# Altium schematic symbol library Interface_USB.SchLib: 132 symbols (part 1 of 2)
Pins are listed as number, name and electrical type; pins without a type are passive.

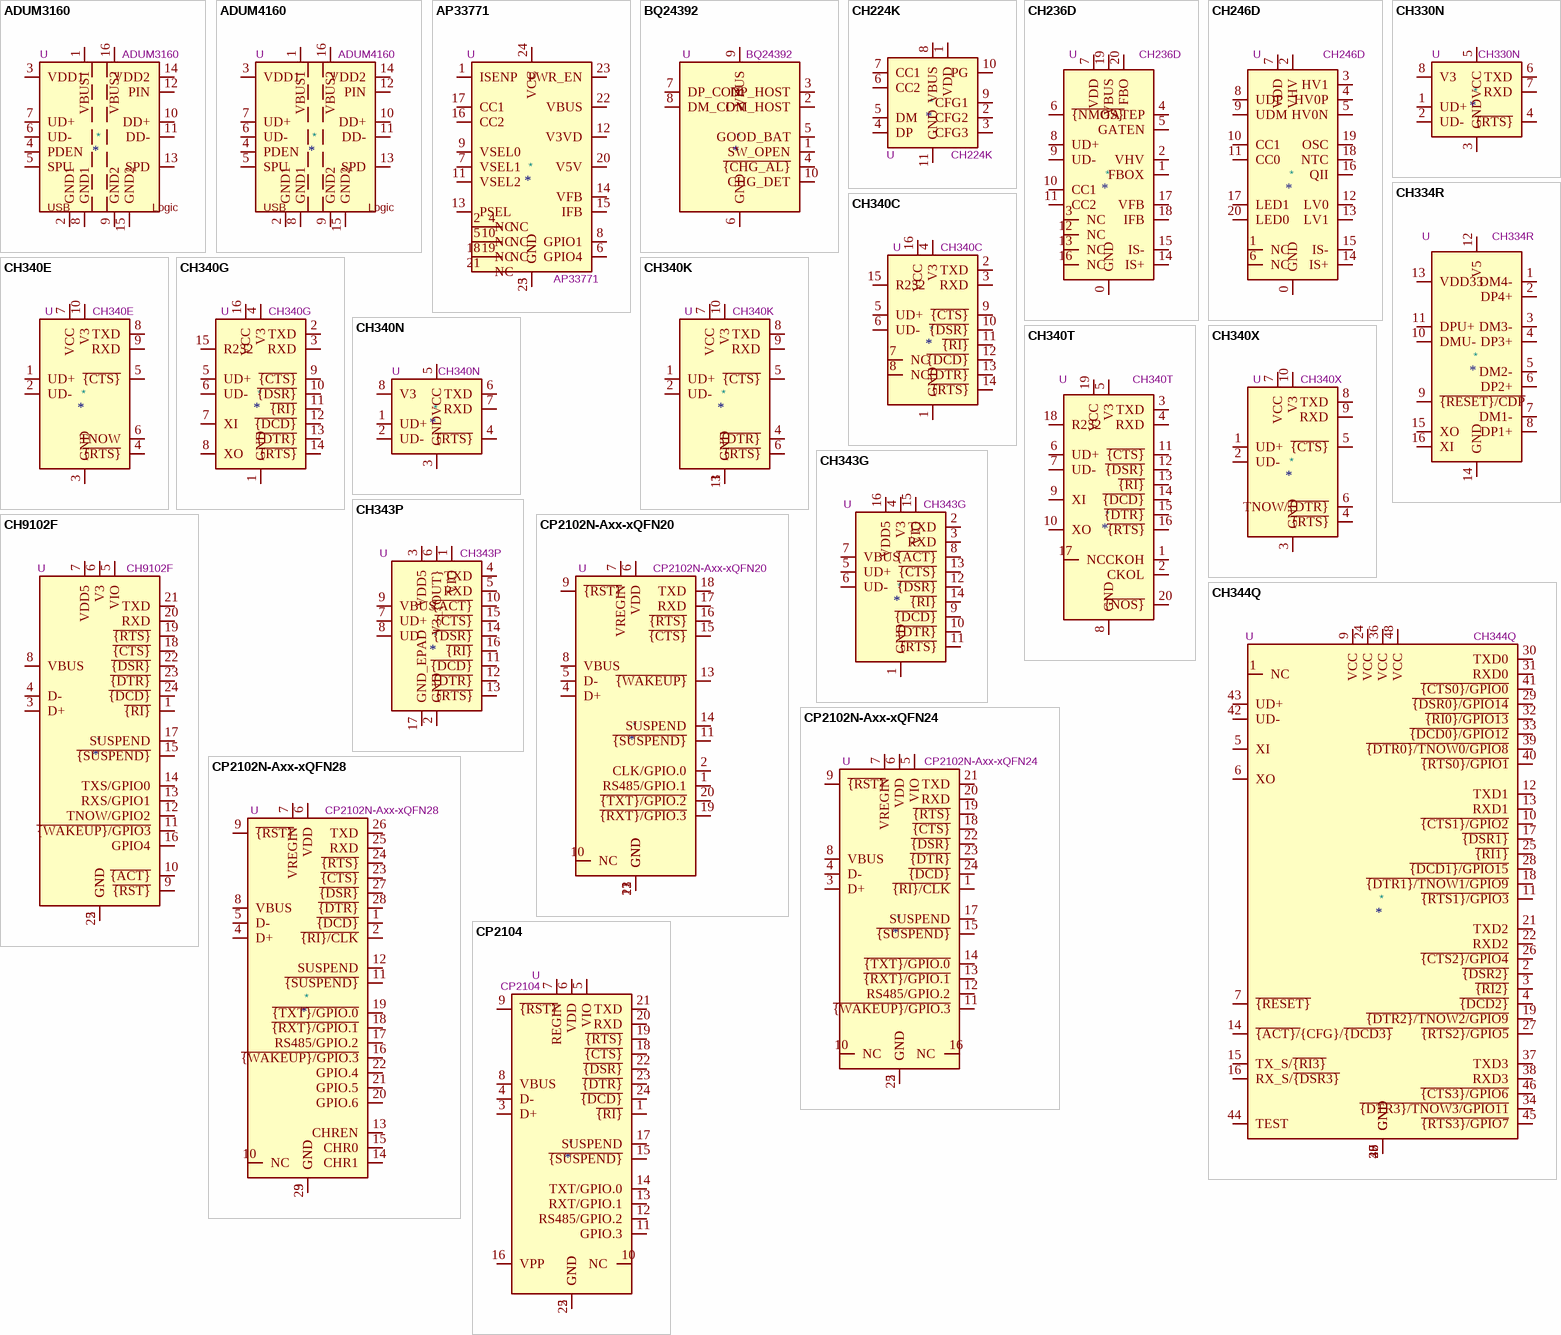
[diagram p0: symbols ADUM3160 to CP2104]

## ADUM3160
designator *  value ADUM3160  Reference: U
Full/Low Speed, iCoupler USB Digital Isolator, 2.5kV protection; ki_keywords: usb isolation; ki_fp_filters: SOIC*7.5x10.3mm*P1.27mm*; Footprint: Package_SO:SOIC-16W_7.5x10.3mm_P1.27mm; Datasheet: https://www.analog.com/media/en/technical-documentation/data-sheets/ADuM3160.pdf; Description_: Full/Low Speed, iCoupler USB Digital Isolator, 2.5kV protection
pins: 1 VBUS1, 2 GND1, 3 VDD1, 4 PDEN, 5 SPU, 6 UD-, 7 UD+, 8 GND1, 9 GND2, 10 DD+, 11 DD-, 12 PIN, 13 SPD, 14 VDD2, 15 GND2, 16 VBUS2
text: USB; Logic

## ADUM4160
designator *  value ADUM4160  Reference: U
Full/Low Speed, iCoupler USB Digital Isolator, 5kV protection, SOIC-16; ki_keywords: usb isolation; ki_fp_filters: SOIC*7.5x10.3mm*P1.27mm*; Footprint: Package_SO:SOIC-16W_7.5x10.3mm_P1.27mm; Datasheet: https://www.analog.com/media/en/technical-documentation/data-sheets/ADuM4160.pdf; Description_: Full/Low Speed, iCoupler USB Digital Isolator, 5kV protection, SOIC-16
pins: 1 VBUS1, 2 GND1, 3 VDD1, 4 PDEN, 5 SPU, 6 UD-, 7 UD+, 8 GND1, 9 GND2, 10 DD+, 11 DD-, 12 PIN, 13 SPD, 14 VDD2, 15 GND2, 16 VBUS2
text: USB; Logic

## AP33771
designator *  value AP33771  Reference: U
USB Type-C PD Sink Controller, QFN-24; ki_keywords: USB Type C PD Sink; ki_fp_filters: QFN*1EP*4x4mm*P0.5mm*; Footprint: Package_DFN_QFN:QFN-24-1EP_4x4mm_P0.5mm_EP2.7x2.7mm; Datasheet: https://www.diodes.com/assets/Datasheets/AP33771.pdf; Description_: USB Type-C PD Sink Controller, QFN-24
pins: 1 ISENP, 2 NC, 3 GND, 4 NC, 5 NC, 6 GPIO4, 7 VSEL1, 8 GPIO1, 9 VSEL0, 10 NC, 11 VSEL2, 12 V3VD, 13 PSEL, 14 VFB, 15 IFB, 16 CC2, 17 CC1, 18 NC, 19 NC, 20 V5V, 21 NC, 22 VBUS, 23 PWR_EN, 24 VCC, 25 GND

## BQ24392
designator *  value BQ24392  Reference: U
Dual SPST USB 2.0 High Speed Switch with USB Battery Charging Specification Revision 1.2 Detection, UQFN-10; ki_keywords: USB BC detector charger; ki_fp_filters: Texas*R*PUQFN*; Footprint: Package_DFN_QFN:Texas_R-PUQFN-N10; Datasheet: http://www.ti.com/lit/ds/symlink/bq24392.pdf; Description_: Dual SPST USB 2.0 High Speed Switch with USB Battery Charging Specification Revision 1.2 Detection, UQFN-10
pins: 1 SW_OPEN, 2 DM_HOST, 3 DP_HOST, 4 ~{{CHG_AL}}, 5 GOOD_BAT, 6 GND, 7 DP_CON, 8 DM_CON, 9 VBUS, 10 CHG_DET

## CH224K
designator *  value CH224K  Reference: U
100W USB Type-C PD3.0/2.0, BC1.2 Sink Controller, SSOP-10; ki_keywords: USB-C WCH powered-device; ki_fp_filters: SSOP*3.9x4.9mm*P1mm*EP2.1x3.3mm*; Footprint: Package_SO:SSOP-10-1EP_3.9x4.9mm_P1mm_EP2.1x3.3mm; Datasheet: https://www.wch.cn/downloads/file/301.html; Description_: 100W USB Type-C PD3.0/2.0, BC1.2 Sink Controller, SSOP-10
pins: 1 VDD, 2 CFG2, 3 CFG3, 4 DP, 5 DM, 6 CC2, 7 CC1, 8 VBUS, 9 CFG1, 10 PG, 11 GND

## CH236D
designator *  value CH236D  Reference: U
USB fast charging interface PD2.0/3.0, PPS, BC1.2 , QFN-20; ki_keywords: USB PD; ki_fp_filters: QFN*3x3mm*P0.4mm*; Footprint: Package_DFN_QFN:QFN-20-1EP_3x3mm_P0.4mm_EP1.65x1.65mm; Datasheet: https://wch-ic.com/downloads/file/313.html; Description_: USB fast charging interface PD2.0/3.0, PPS, BC1.2 , QFN-20
pins: 0 GND, 1 FBOX, 2 VHV, 3 NC, 4 GATEP, 5 GATEN, 6 ~{{NMOS}}, 7 VDD, 8 UD+, 9 UD-, 10 CC1, 11 CC2, 12 NC, 13 NC, 14 IS+, 15 IS-, 16 NC, 17 VFB, 18 IFB, 19 VBUS, 20 FBO

## CH246D
designator *  value CH246D  Reference: U
USB QII wireless charging interface PD2.0, BC1.2, QII 5W, 7.5W, 10W, 15W, QFN-20; ki_keywords: USB PD QII; ki_fp_filters: QFN*3x3mm*P0.4mm*; Footprint: Package_DFN_QFN:QFN-20-1EP_3x3mm_P0.4mm_EP1.65x1.65mm; Datasheet: https://wch-ic.com/downloads/file/307.html; Description_: USB QII wireless charging interface PD2.0, BC1.2, QII 5W, 7.5W, 10W, 15W, QFN-20
pins: 0 GND, 1 NC, 2 VHV, 3 HV1, 4 HV0P, 5 HV0N, 6 NC, 7 VDD, 8 UDP, 9 UDM, 10 CC1, 11 CC0, 12 LV0, 13 LV1, 14 IS+, 15 IS-, 16 QII, 17 LED1, 18 NTC, 19 OSC, 20 LED0

## CH330N
designator *  value CH330N  Reference: U
USB serial converter, UART, SOIC-8; ki_keywords: usb uart wch serial; ki_fp_filters: SOIC*3.9x4.9mm*P1.27mm*; Footprint: Package_SO:SOIC-8_3.9x4.9mm_P1.27mm; Datasheet: http://www.wch.cn/downloads/file/240.html; Description_: USB serial converter, UART, SOIC-8
pins: 1 UD+, 2 UD-, 3 GND, 4 ~{{RTS}}, 5 VCC, 6 TXD, 7 RXD, 8 V3

## CH334R
designator *  value CH334R  Reference: U
USB HUB controller, UART, QSOP-16; ki_keywords: USB HUB Controller Interface; ki_fp_filters: QSOP*3.9x4.9mm*P0.635mm*; Footprint: Package_SO:QSOP-16_3.9x4.9mm_P0.635mm; Datasheet: https://www.wch-ic.com/downloads/file/327.html; Description_: USB HUB controller, UART, QSOP-16
pins: 1 DM4-, 2 DP4+, 3 DM3-, 4 DP3+, 5 DM2-, 6 DP2+, 7 DM1-, 8 DP1+, 9 ~{{RESET}/CDP}, 10 DMU-, 11 DPU+, 12 V5, 13 VDD33, 14 GND, 15 XO, 16 XI

## CH340C
designator *  value CH340C  Reference: U
USB serial converter, crystal-less, UART, SOIC-16; ki_keywords: USB UART Serial Converter Interface; ki_fp_filters: SOIC*3.9x9.9mm*P1.27mm*; Footprint: Package_SO:SOIC-16_3.9x9.9mm_P1.27mm; Datasheet: https://datasheet.lcsc.com/szlcsc/Jiangsu-Qin-Heng-CH340C_C84681.pdf; Description_: USB serial converter, crystal-less, UART, SOIC-16
pins: 1 GND, 2 TXD, 3 RXD, 4 V3, 5 UD+, 6 UD-, 7 NC, 8 NC, 9 ~{{CTS}}, 10 ~{{DSR}}, 11 ~{{RI}}, 12 ~{{DCD}}, 13 ~{{DTR}}, 14 ~{{RTS}}, 15 R232, 16 VCC

## CH340E
designator *  value CH340E  Reference: U
USB serial converter, UART, MSOP-10; ki_keywords: USB UART Serial Converter Interface; ki_fp_filters: MSOP*3x3mm*P0.5mm*; Footprint: Package_SO:MSOP-10_3x3mm_P0.5mm; Datasheet: https://www.mpja.com/download/35227cpdata.pdf; Description_: USB serial converter, UART, MSOP-10
pins: 1 UD+, 2 UD-, 3 GND, 4 ~{{RTS}}, 5 ~{{CTS}}, 6 TNOW, 7 VCC, 8 TXD, 9 RXD, 10 V3

## CH340G
designator *  value CH340G  Reference: U
USB serial converter, UART, SOIC-16; ki_keywords: USB UART Serial Converter Interface; ki_fp_filters: SOIC*3.9x9.9mm*P1.27mm*; Footprint: Package_SO:SOIC-16_3.9x9.9mm_P1.27mm; Datasheet: http://www.datasheet5.com/pdf-local-2195953; Description_: USB serial converter, UART, SOIC-16
pins: 1 GND, 2 TXD, 3 RXD, 4 V3, 5 UD+, 6 UD-, 7 XI, 8 XO, 9 ~{{CTS}}, 10 ~{{DSR}}, 11 ~{{RI}}, 12 ~{{DCD}}, 13 ~{{DTR}}, 14 ~{{RTS}}, 15 R232, 16 VCC

## CH340K
designator *  value CH340K  Reference: U
USB serial converter, UART, SSOP-10; ki_keywords: USB UART Serial Converter Interface; ki_fp_filters: SSOP*1EP*3.9x4.9mm*P1mm*; Footprint: Package_SO:SSOP-10-1EP_3.9x4.9mm_P1mm_EP2.1x3.3mm; Datasheet: https://cdn.sparkfun.com/assets/5/0/a/8/5/CH340DS1.PDF; Description_: USB serial converter, UART, SSOP-10
pins: 1 UD+, 2 UD-, 3 GND, 4 ~{{DTR}}, 5 ~{{CTS}}, 6 ~{{RTS}}, 7 VCC, 8 TXD, 9 RXD, 10 V3, 11 GND

## CH340N
designator *  value CH340N  Reference: U
USB serial converter, 2Mbps, UART, JEITA SOIC-8 (SOP-8); ki_keywords: USB UART Serial Converter Interface; ki_fp_filters: JEITA?SOIC*3.9x4.9mm*P1.27mm*; Footprint: Package_SO:JEITA_SOIC-8_3.9x4.9mm_P1.27mm; Datasheet: https://aitendo3.sakura.ne.jp/aitendo_data/product_img/ic/inteface/CH340N/ch340n.pdf; Description_: USB serial converter, 2Mbps, UART, JEITA SOIC-8 (SOP-8)
pins: 1 UD+, 2 UD-, 3 GND, 4 ~{{RTS}}, 5 VCC, 6 TXD, 7 RXD, 8 V3

## CH340T
designator *  value CH340T  Reference: U
USB serial converter, UART, SSOP-20; ki_keywords: USB UART Serial Converter Interface; ki_fp_filters: SSOP*5.3x7.2mm*P0.65mm*; Footprint: Package_SO:SSOP-20_5.3x7.2mm_P0.65mm; Datasheet: https://cdn.sparkfun.com/datasheets/Dev/Arduino/Other/CH340DS1.PDF; Description_: USB serial converter, UART, SSOP-20
pins: 1 CKOH, 2 CKOL, 3 TXD, 4 RXD, 5 V3, 6 UD+, 7 UD-, 8 GND, 9 XI, 10 XO, 11 ~{{CTS}}, 12 ~{{DSR}}, 13 ~{{RI}}, 14 ~{{DCD}}, 15 ~{{DTR}}, 16 ~{{RTS}}, 17 NC, 18 R232, 19 VCC, 20 ~{{NOS}}

## CH340X
designator *  value CH340X  Reference: U
USB serial converter, 5V-tolerant IO, UART, MSOP-10; ki_keywords: USB UART Serial Converter Interface; ki_fp_filters: MSOP*3x3mm*P0.5mm*; Footprint: Package_SO:MSOP-10_3x3mm_P0.5mm; Datasheet: https://cdn.sparkfun.com/assets/5/0/a/8/5/CH340DS1.PDF; Description_: USB serial converter, 5V-tolerant IO, UART, MSOP-10
pins: 1 UD+, 2 UD-, 3 GND, 4 ~{{RTS}}, 5 ~{{CTS}}, 6 TNOW/~{{DTR}}, 7 VCC, 8 TXD, 9 RXD, 10 V3

## CH343G
designator *  value CH343G  Reference: U
High-Speed USB serial converter, up to 6Mbps, 3.3V or 5V supply, UART, SOIC-16; ki_keywords: UART Interface crystalless; ki_fp_filters: SOIC*3.9x9.9mm*P1.27mm*; Footprint: Package_SO:SOIC-16_3.9x9.9mm_P1.27mm; Datasheet: https://www.wch-ic.com/downloads/CH343DS1_PDF.html; Description_: High-Speed USB serial converter, up to 6Mbps, 3.3V or 5V supply, UART, SOIC-16
pins: 1 GND, 2 TXD, 3 RXD, 4 V3, 5 UD+, 6 UD-, 7 VBUS, 8 ~{{ACT}}, 9 ~{{DCD}}, 10 ~{{DTR}}, 11 ~{{RTS}}, 12 ~{{DSR}}, 13 ~{{CTS}}, 14 ~{{RI}}, 15 VIO, 16 VDD5

## CH343P
designator *  value CH343P  Reference: U
High-Speed USB serial converter, up to 6Mbps, 3.3V or 5V supply, UART, QFN-16; ki_keywords: UART Interface crystalless Winchip WCH; ki_fp_filters: *QFN*3x3mm*P0.5mm*EP1.8x1.8mm*; Footprint: Package_DFN_QFN:WCH_QFN-16-1EP_3x3mm_P0.5mm_EP1.8x1.8mm; Datasheet: https://www.wch-ic.com/downloads/CH343DS1_PDF.html; Description_: High-Speed USB serial converter, up to 6Mbps, 3.3V or 5V supply, UART, QFN-16
pins: 1 VIO, 2 GND, 3 VDD5, 4 TXD, 5 RXD, 6 V3_{OUT}, 7 UD+, 8 UD-, 9 VBUS, 10 ~{{ACT}}, 11 ~{{DCD}}, 12 ~{{DTR}}, 13 ~{{RTS}}, 14 ~{{DSR}}, 15 ~{{CTS}}, 16 ~{{RI}}, 17 GND_EPAD

## CH344Q
designator *  value CH344Q  Reference: U
USB to Quad Serial Ports Chip, LQFP-48; ki_keywords: USB Quad UART Serial Converter Interface; ki_fp_filters: *QFP*7x7mm*P0.5mm*; Footprint: Package_QFP:LQFP-48_7x7mm_P0.5mm; Datasheet: https://www.wch-ic.com/downloads/file/299.html; Description_: USB to Quad Serial Ports Chip, LQFP-48
pins: 1 NC, 2 ~{{DSR2}}, 3 ~{{RI2}}, 4 ~{{DCD2}}, 5 XI, 6 XO, 7 ~{{RESET}}, 8 GND, 9 VCC, 10 ~{{CTS1}/GPIO2}, 11 ~{{RTS1}/GPIO3}, 12 TXD1, 13 RXD1, 14 ~{{ACT}/}{CFG}/~{{DCD3}}, 15 TX_S/~{{RI3}}, 16 RX_S/~{{DSR3}}, 17 ~{{DSR1}}, 18 ~{{DTR1}/TNOW1/GPIO9}, 19 ~{{DTR2}/TNOW2/GPIO9}, 20 GND, 21 TXD2, 22 RXD2, 23 GND, 24 VCC, 25 ~{{RI1}}, 26 ~{{CTS2}/GPIO4}, 27 ~{{RTS2}/GPIO5}, 28 ~{{DCD1}/GPIO15}, 29 ~{{DSR0}/GPIO14}, 30 TXD0, 31 RXD0, 32 ~{{RI0}/GPIO13}, 33 ~{{DCD0}/GPIO12}, 34 ~{{DTR3}/TNOW3/GPIO11}, 35 GND, 36 VCC, 37 TXD3, 38 RXD3, 39 ~{{DTR0}/TNOW0/GPIO8}, 40 ~{{RTS0}/GPIO1}, 41 ~{{CTS0}/GPIO0}, 42 UD-, 43 UD+, 44 TEST, 45 ~{{RTS3}/GPIO7}, 46 ~{{CTS3}/GPIO6}, 47 GND, 48 VCC

## CH9102F
designator *  value CH9102F  Reference: U
WCH-IC, Single-Chip USB-to-UART Bridge, USB 2.0 Full-Speed, 4Mbps UART, QFN-24; ki_keywords: uart usb bridge interface transceiver CH9102F; ki_fp_filters: QFN*4x4mm*P0.5mm*; Footprint: Package_DFN_QFN:QFN-24-1EP_4x4mm_P0.5mm_EP2.6x2.6mm; Datasheet: http://www.wch-ic.com/downloads/CH9102DS1_PDF.html; Description_: WCH-IC, Single-Chip USB-to-UART Bridge, USB 2.0 Full-Speed, 4Mbps UART, QFN-24
pins: 1 ~{{RI}}, 2 GND, 3 D+, 4 D-, 5 VIO, 6 V3, 7 VDD5, 8 VBUS, 9 ~{{RST}}, 10 ~{{ACT}}, 11 ~{{WAKEUP}/GPIO3}, 12 TNOW/GPIO2, 13 RXS/GPIO1, 14 TXS/GPIO0, 15 ~{{SUSPEND}}, 16 GPIO4, 17 SUSPEND, 18 ~{{CTS}}, 19 ~{{RTS}}, 20 RXD, 21 TXD, 22 ~{{DSR}}, 23 ~{{DTR}}, 24 ~{{DCD}}, 25 GND

## CP2102N-Axx-xQFN20
designator *  value CP2102N-Axx-xQFN20  Reference: U
USB to UART master bridge, QFN-20; ki_keywords: USB UART bridge; ki_fp_filters: SiliconLabs*QFN*3x3mm*P0.5mm*; Footprint: Package_DFN_QFN:SiliconLabs_QFN-20-1EP_3x3mm_P0.5mm; Datasheet: https://www.silabs.com/documents/public/data-sheets/cp2102n-datasheet.pdf; Description_: USB to UART master bridge, QFN-20
pins: 1 RS485/GPIO.1, 2 CLK/GPIO.0, 3 GND, 4 D+, 5 D-, 6 VDD, 7 VREGIN, 8 VBUS, 9 ~{{RST}}, 10 NC, 11 ~{{SUSPEND}}, 12 GND, 13 ~{{WAKEUP}}, 14 SUSPEND, 15 ~{{CTS}}, 16 ~{{RTS}}, 17 RXD, 18 TXD, 19 ~{{RXT}/GPIO.3}, 20 ~{{TXT}/GPIO.2}, 21 GND

## CP2102N-Axx-xQFN24
designator *  value CP2102N-Axx-xQFN24  Reference: U
USB to UART master bridge, QFN-24; ki_keywords: USB UART bridge; ki_fp_filters: QFN*4x4mm*P0.5mm*; Footprint: Package_DFN_QFN:QFN-24-1EP_4x4mm_P0.5mm_EP2.6x2.6mm; Datasheet: https://www.silabs.com/documents/public/data-sheets/cp2102n-datasheet.pdf; Description_: USB to UART master bridge, QFN-24
pins: 1 ~{{RI}/CLK}, 2 GND, 3 D+, 4 D-, 5 VIO, 6 VDD, 7 VREGIN, 8 VBUS, 9 ~{{RST}}, 10 NC, 11 ~{{WAKEUP}/GPIO.3}, 12 RS485/GPIO.2, 13 ~{{RXT}/GPIO.1}, 14 ~{{TXT}/GPIO.0}, 15 ~{{SUSPEND}}, 16 NC, 17 SUSPEND, 18 ~{{CTS}}, 19 ~{{RTS}}, 20 RXD, 21 TXD, 22 ~{{DSR}}, 23 ~{{DTR}}, 24 ~{{DCD}}, 25 GND

## CP2102N-Axx-xQFN28
designator *  value CP2102N-Axx-xQFN28  Reference: U
USB to UART master bridge, QFN-28; ki_keywords: USB UART bridge; ki_fp_filters: QFN*1EP*5x5mm*P0.5mm*; Footprint: Package_DFN_QFN:QFN-28-1EP_5x5mm_P0.5mm_EP3.35x3.35mm; Datasheet: https://www.silabs.com/documents/public/data-sheets/cp2102n-datasheet.pdf; Description_: USB to UART master bridge, QFN-28
pins: 1 ~{{DCD}}, 2 ~{{RI}/CLK}, 3 GND, 4 D+, 5 D-, 6 VDD, 7 VREGIN, 8 VBUS, 9 ~{{RST}}, 10 NC, 11 ~{{SUSPEND}}, 12 SUSPEND, 13 CHREN, 14 CHR1, 15 CHR0, 16 ~{{WAKEUP}/GPIO.3}, 17 RS485/GPIO.2, 18 ~{{RXT}/GPIO.1}, 19 ~{{TXT}/GPIO.0}, 20 GPIO.6, 21 GPIO.5, 22 GPIO.4, 23 ~{{CTS}}, 24 ~{{RTS}}, 25 RXD, 26 TXD, 27 ~{{DSR}}, 28 ~{{DTR}}, 29 GND

## CP2104
designator *  value CP2104  Reference: U
Single-Chip USB-to-UART Bridge, USB 2.0 Full-Speed, 2Mbps UART, QFN-24; ki_keywords: uart usb bridge interface transceiver; ki_fp_filters: QFN*4x4mm*P0.5mm*; Footprint: Package_DFN_QFN:QFN-24-1EP_4x4mm_P0.5mm_EP2.6x2.6mm; Datasheet: https://www.silabs.com/documents/public/data-sheets/cp2104.pdf; Description_: Single-Chip USB-to-UART Bridge, USB 2.0 Full-Speed, 2Mbps UART, QFN-24
pins: 1 ~{{RI}}, 2 GND, 3 D+, 4 D-, 5 VIO, 6 VDD, 7 REGIN, 8 VBUS, 9 ~{{RST}}, 10 NC, 11 GPIO.3, 12 RS485/GPIO.2, 13 RXT/GPIO.1, 14 TXT/GPIO.0, 15 ~{{SUSPEND}}, 16 VPP, 17 SUSPEND, 18 ~{{CTS}}, 19 ~{{RTS}}, 20 RXD, 21 TXD, 22 ~{{DSR}}, 23 ~{{DTR}}, 24 ~{{DCD}}, 25 GND

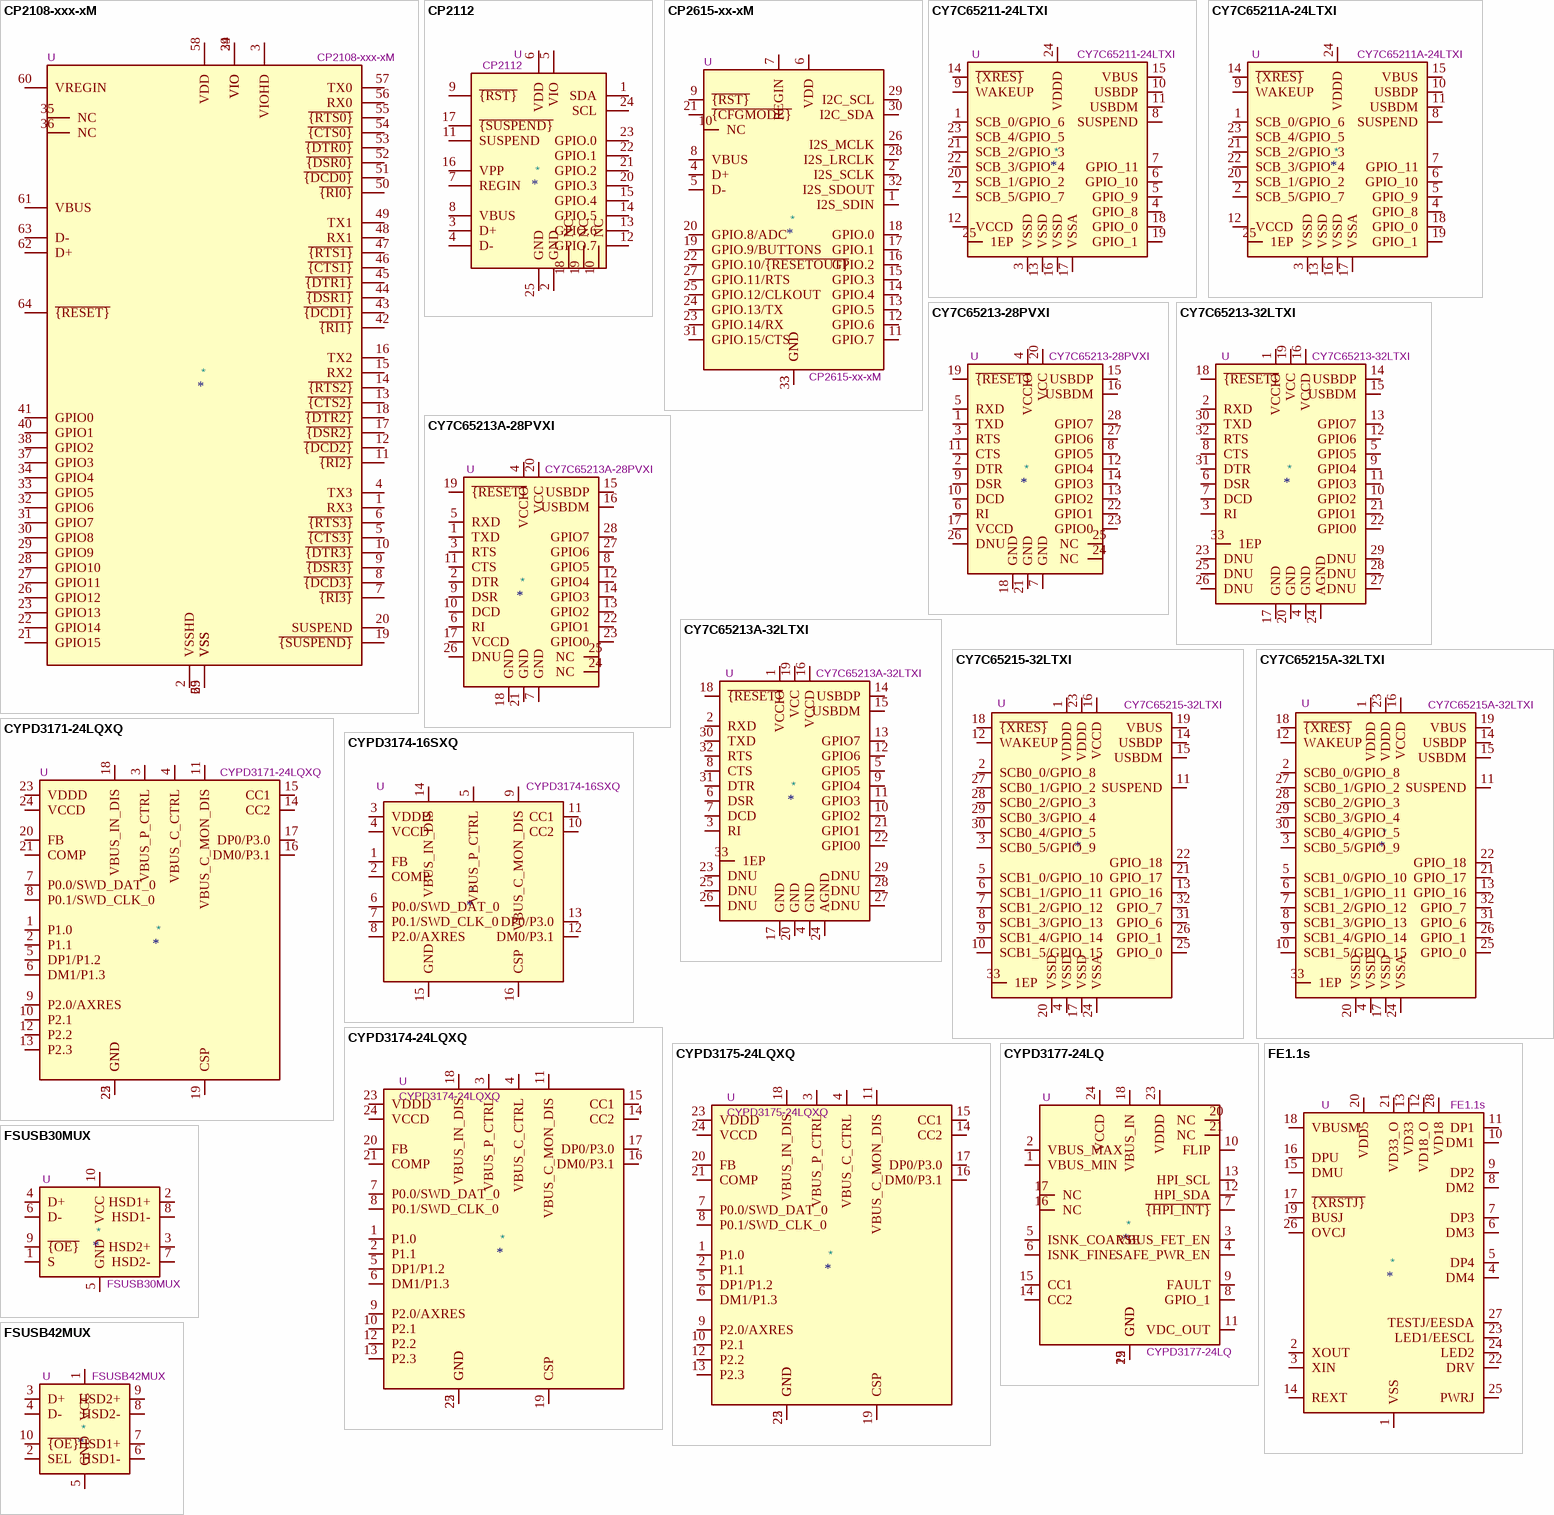
[diagram p1: symbols CP2108-xxx-xM to FSUSB42MUX]

## CP2108-xxx-xM
designator *  value CP2108-xxx-xM  Reference: U
Full Speed Quad Channel USB UART/FIFO, integrated clock and EEPROM, QFN-64; ki_keywords: USB Quad UART FIFO bridge; ki_fp_filters: QFN*1EP*9x9mm*P0.5mm*; Footprint: Package_DFN_QFN:QFN-64-1EP_9x9mm_P0.5mm_EP4.1x4.1mm; Datasheet: https://www.silabs.com/documents/public/data-sheets/cp2108-datasheet.pdf; Description_: Full Speed Quad Channel USB UART/FIFO, integrated clock and EEPROM, QFN-64
pins: 1 RX3, 2 VSSHD, 3 VIOHD, 4 TX3, 5 ~{{CTS3}}, 6 ~{{RTS3}}, 7 ~{{RI3}}, 8 ~{{DCD3}}, 9 ~{{DSR3}}, 10 ~{{DTR3}}, 11 ~{{RI2}}, 12 ~{{DCD2}}, 13 ~{{CTS2}}, 14 ~{{RTS2}}, 15 RX2, 16 TX2, 17 ~{{DSR2}}, 18 ~{{DTR2}}, 19 ~{{SUSPEND}}, 20 SUSPEND, 21 GPIO15, 22 GPIO14, 23 GPIO13, 24 VIO, 25 VSS, 26 GPIO12, 27 GPIO11, 28 GPIO10, 29 GPIO9, 30 GPIO8, 31 GPIO7, 32 GPIO6, 33 GPIO5, 34 GPIO4, 35 NC, 36 NC, 37 GPIO3, 38 GPIO2, 39 VIO, 40 GPIO1, 41 GPIO0, 42 ~{{RI1}}, 43 ~{{DCD1}}, 44 ~{{DSR1}}, 45 ~{{DTR1}}, 46 ~{{CTS1}}, 47 ~{{RTS1}}, 48 RX1, 49 TX1, 50 ~{{RI0}}, 51 ~{{DCD0}}, 52 ~{{DSR0}}, 53 ~{{DTR0}}, 54 ~{{CTS0}}, 55 ~{{RTS0}}, 56 RX0, 57 TX0, 58 VDD, 59 VSS, 60 VREGIN, 61 VBUS, 62 D+, 63 D-, 64 ~{{RESET}}, 65 VSS

## CP2112
designator *  value CP2112  Reference: U
HID USB to SMBUS master bridge; ki_keywords: USB SMBUS bridge; ki_fp_filters: QFN*4x4mm*P0.5mm*; Footprint: Package_DFN_QFN:QFN-24-1EP_4x4mm_P0.5mm_EP2.6x2.6mm; Datasheet: https://www.silabs.com/documents/public/data-sheets/cp2112-datasheet.pdf; Description_: HID USB to SMBUS master bridge
pins: 1 SDA, 2 GND, 3 D+, 4 D-, 5 VIO, 6 VDD, 7 REGIN, 8 VBUS, 9 ~{{RST}}, 10 NC, 11 SUSPEND, 12 GPIO.7, 13 GPIO.6, 14 GPIO.5, 15 GPIO.4, 16 VPP, 17 ~{{SUSPEND}}, 18 NC, 19 NC, 20 GPIO.3, 21 GPIO.2, 22 GPIO.1, 23 GPIO.0, 24 SCL, 25 GND

## CP2615-xx-xM
designator *  value CP2615-xx-xM  Reference: U
USB to I2S bridge, USB 1.0 Audio Class, QFN-32; ki_keywords: usb i2s i2c uart audio bridge hid gpio; ki_fp_filters: QFN*1EP*5x5mm*P0.5mm*; Footprint: Package_DFN_QFN:QFN-32-1EP_5x5mm_P0.5mm_EP3.3x3.3mm; Datasheet: https://www.silabs.com/documents/public/data-sheets/cp2615-datasheet.pdf; Description_: USB to I2S bridge, USB 1.0 Audio Class, QFN-32
pins: 1 I2S_SDIN, 2 I2S_SCLK, 3 GND, 4 D+, 5 D-, 6 VDD, 7 REGIN, 8 VBUS, 9 ~{{RST}}, 10 NC, 11 GPIO.7, 12 GPIO.6, 13 GPIO.5, 14 GPIO.4, 15 GPIO.3, 16 GPIO.2, 17 GPIO.1, 18 GPIO.0, 19 GPIO.9/BUTTONS, 20 GPIO.8/ADC, 21 ~{{CFGMODE}}, 22 GPIO.10/~{{RESETOUT}}, 23 GPIO.14/RX, 24 GPIO.13/TX, 25 GPIO.12/CLKOUT, 26 I2S_MCLK, 27 GPIO.11/RTS, 28 I2S_LRCLK, 29 I2C_SCL, 30 I2C_SDA, 31 GPIO.15/CTS, 32 I2S_SDOUT, 33 GND

## CY7C65211-24LTXI
designator *  value CY7C65211-24LTXI  Reference: U
USB-Serial single channel bridge with capsense and BCD, +1.71V to +5.5V VDD, UART/I2C/SPI/RS232/RS422, QFN-24; ki_fp_filters: QFN*1EP*4x4mm*P0.5mm*; Footprint: Package_DFN_QFN:QFN-24-1EP_4x4mm_P0.5mm_EP2.6x2.6mm; Datasheet: http://www.cypress.com/file/139886/download; Description_: USB-Serial single channel bridge with capsense and BCD, +1.71V to +5.5V VDD, UART/I2C/SPI/RS232/RS422, QFN-24; ki_keywords: USB-Serial single channel bridge
pins: 1 SCB_0/GPIO_6, 2 SCB_5/GPIO_7, 3 VSSD, 4 GPIO_8, 5 GPIO_9, 6 GPIO_10, 7 GPIO_11, 8 SUSPEND, 9 WAKEUP, 10 USBDP, 11 USBDM, 12 VCCD, 13 VSSD, 14 ~{{XRES}}, 15 VBUS, 16 VSSD, 17 VSSA, 18 GPIO_0, 19 GPIO_1, 20 SCB_1/GPIO_2, 21 SCB_2/GPIO_3, 22 SCB_3/GPIO_4, 23 SCB_4/GPIO_5, 24 VDDD, 25 1EP

## CY7C65211A-24LTXI
designator *  value CY7C65211A-24LTXI  Reference: U
USB-Serial single channel bridge with capsense and BCD, +1.71V to +5.5V VDD, UART/I2C/SPI/RS232/RS422/RS485, QFN-24; ki_fp_filters: QFN*1EP*4x4mm*P0.5mm*; Footprint: Package_DFN_QFN:QFN-24-1EP_4x4mm_P0.5mm_EP2.6x2.6mm; Datasheet: http://www.cypress.com/file/139886/download; Description_: USB-Serial single channel bridge with capsense and BCD, +1.71V to +5.5V VDD, UART/I2C/SPI/RS232/RS422/RS485, QFN-24; ki_keywords: USB-Serial single channel bridge
pins: 1 SCB_0/GPIO_6, 2 SCB_5/GPIO_7, 3 VSSD, 4 GPIO_8, 5 GPIO_9, 6 GPIO_10, 7 GPIO_11, 8 SUSPEND, 9 WAKEUP, 10 USBDP, 11 USBDM, 12 VCCD, 13 VSSD, 14 ~{{XRES}}, 15 VBUS, 16 VSSD, 17 VSSA, 18 GPIO_0, 19 GPIO_1, 20 SCB_1/GPIO_2, 21 SCB_2/GPIO_3, 22 SCB_3/GPIO_4, 23 SCB_4/GPIO_5, 24 VDDD, 25 1EP

## CY7C65213-28PVXI
designator *  value CY7C65213-28PVXI  Reference: U
USB-UART LP Bridge Controller, full speed 12Mbps, +1.71V to 5.5V VDD, UART/RS232/RS422, SSOP-28; ki_fp_filters: SSOP*5.3x10.2mm*P0.65mm*; Footprint: Package_SO:SSOP-28_5.3x10.2mm_P0.65mm; Datasheet: http://www.cypress.com/file/139881/download; Description_: USB-UART LP Bridge Controller, full speed 12Mbps, +1.71V to 5.5V VDD, UART/RS232/RS422, SSOP-28; ki_keywords: USB-UART LP Bridge Controller, full speed 12Mbps
pins: 1 TXD, 2 DTR, 3 RTS, 4 VCCIO, 5 RXD, 6 RI, 7 GND, 8 GPIO5, 9 DSR, 10 DCD, 11 CTS, 12 GPIO4, 13 GPIO2, 14 GPIO3, 15 USBDP, 16 USBDM, 17 VCCD, 18 GND, 19 ~{{RESET}}, 20 VCC, 21 GND, 22 GPIO1, 23 GPIO0, 24 NC, 25 NC, 26 DNU, 27 GPIO6, 28 GPIO7

## CY7C65213-32LTXI
designator *  value CY7C65213-32LTXI  Reference: U
USB-UART LP Bridge Controller, full speed 12Mbps, +1.71V to 5.5V VDD, UART/RS232/RS422, QFN-32; ki_fp_filters: QFN*1EP*5x5mm*P0.5mm*; Footprint: Package_DFN_QFN:QFN-32-1EP_5x5mm_P0.5mm_EP3.45x3.45mm; Datasheet: http://www.cypress.com/file/139881/download; Description_: USB-UART LP Bridge Controller, full speed 12Mbps, +1.71V to 5.5V VDD, UART/RS232/RS422, QFN-32; ki_keywords: USB-UART LP Bridge Controller, full speed 12Mbps
pins: 1 VCCIO, 2 RXD, 3 RI, 4 GND, 5 GPIO5, 6 DSR, 7 DCD, 8 CTS, 9 GPIO4, 10 GPIO2, 11 GPIO3, 12 GPIO6, 13 GPIO7, 14 USBDP, 15 USBDM, 16 VCCD, 17 GND, 18 ~{{RESET}}, 19 VCC, 20 GND, 21 GPIO1, 22 GPIO0, 23 DNU, 24 AGND, 25 DNU, 26 DNU, 27 DNU, 28 DNU, 29 DNU, 30 TXD, 31 DTR, 32 RTS, 33 1EP

## CY7C65213A-28PVXI
designator *  value CY7C65213A-28PVXI  Reference: U
USB-UART LP Bridge Controller, full speed 12Mbps, +1.71V to 5.5V VDD, UART/RS232/RS422/RS485, SSOP-28; ki_fp_filters: SSOP*5.3x10.2mm*P0.65mm*; Footprint: Package_SO:SSOP-28_5.3x10.2mm_P0.65mm; Datasheet: http://www.cypress.com/file/139881/download; Description_: USB-UART LP Bridge Controller, full speed 12Mbps, +1.71V to 5.5V VDD, UART/RS232/RS422/RS485, SSOP-28; ki_keywords: USB-UART LP Bridge Controller, full speed 12Mbps
pins: 1 TXD, 2 DTR, 3 RTS, 4 VCCIO, 5 RXD, 6 RI, 7 GND, 8 GPIO5, 9 DSR, 10 DCD, 11 CTS, 12 GPIO4, 13 GPIO2, 14 GPIO3, 15 USBDP, 16 USBDM, 17 VCCD, 18 GND, 19 ~{{RESET}}, 20 VCC, 21 GND, 22 GPIO1, 23 GPIO0, 24 NC, 25 NC, 26 DNU, 27 GPIO6, 28 GPIO7

## CY7C65213A-32LTXI
designator *  value CY7C65213A-32LTXI  Reference: U
USB-UART LP Bridge Controller, full speed 12Mbps, +1.71V to 5.5V VDD, UART/RS232/RS422/RS485, QFN-32; ki_fp_filters: QFN*1EP*5x5mm*P0.5mm*; Footprint: Package_DFN_QFN:QFN-32-1EP_5x5mm_P0.5mm_EP3.45x3.45mm; Datasheet: http://www.cypress.com/file/139881/download; Description_: USB-UART LP Bridge Controller, full speed 12Mbps, +1.71V to 5.5V VDD, UART/RS232/RS422/RS485, QFN-32; ki_keywords: USB-UART LP Bridge Controller, full speed 12Mbps
pins: 1 VCCIO, 2 RXD, 3 RI, 4 GND, 5 GPIO5, 6 DSR, 7 DCD, 8 CTS, 9 GPIO4, 10 GPIO2, 11 GPIO3, 12 GPIO6, 13 GPIO7, 14 USBDP, 15 USBDM, 16 VCCD, 17 GND, 18 ~{{RESET}}, 19 VCC, 20 GND, 21 GPIO1, 22 GPIO0, 23 DNU, 24 AGND, 25 DNU, 26 DNU, 27 DNU, 28 DNU, 29 DNU, 30 TXD, 31 DTR, 32 RTS, 33 1EP

## CY7C65215-32LTXI
designator *  value CY7C65215-32LTXI  Reference: U
USB-Serial Dual Channel Bridge with CapSense Full-Speed 12 Mbps, +1.71V to +5.5V VDD, UART/I2C/SPI/RS232/RS422/JTAG, QFN-32; ki_keywords: USB-Serial single channel bridge; ki_fp_filters: QFN*1EP*5x5mm*P0.5mm*; Footprint: Package_DFN_QFN:QFN-32-1EP_5x5mm_P0.5mm_EP3.45x3.45mm; Datasheet: http://www.cypress.com/file/129956/download; Description_: USB-Serial Dual Channel Bridge with CapSense Full-Speed 12 Mbps, +1.71V to +5.5V VDD, UART/I2C/SPI/RS232/RS422/JTAG, QFN-32
pins: 1 VDDD, 2 SCB0_0/GPIO_8, 3 SCB0_5/GPIO_9, 4 VSSD, 5 SCB1_0/GPIO_10, 6 SCB1_1/GPIO_11, 7 SCB1_2/GPIO_12, 8 SCB1_3/GPIO_13, 9 SCB1_4/GPIO_14, 10 SCB1_5/GPIO_15, 11 SUSPEND, 12 WAKEUP, 13 GPIO_16, 14 USBDP, 15 USBDM, 16 VCCD, 17 VSSD, 18 ~{{XRES}}, 19 VBUS, 20 VSSD, 21 GPIO_17, 22 GPIO_18, 23 VDDD, 24 VSSA, 25 GPIO_0, 26 GPIO_1, 27 SCB0_1/GPIO_2, 28 SCB0_2/GPIO_3, 29 SCB0_3/GPIO_4, 30 SCB0_4/GPIO_5, 31 GPIO_6, 32 GPIO_7, 33 1EP

## CY7C65215A-32LTXI
designator *  value CY7C65215A-32LTXI  Reference: U
USB-Serial Dual Channel Bridge with CapSense, +1.71V to +5.5V VDD, UART/I2C/SPI/RS232/RS422/RS485/JTAG, QFN-32; ki_keywords: USB-Serial single channel bridge; ki_fp_filters: QFN*1EP*5x5mm*P0.5mm*; Footprint: Package_DFN_QFN:QFN-32-1EP_5x5mm_P0.5mm_EP3.45x3.45mm; Datasheet: http://www.cypress.com/file/129956/download; Description_: USB-Serial Dual Channel Bridge with CapSense, +1.71V to +5.5V VDD, UART/I2C/SPI/RS232/RS422/RS485/JTAG, QFN-32
pins: 1 VDDD, 2 SCB0_0/GPIO_8, 3 SCB0_5/GPIO_9, 4 VSSD, 5 SCB1_0/GPIO_10, 6 SCB1_1/GPIO_11, 7 SCB1_2/GPIO_12, 8 SCB1_3/GPIO_13, 9 SCB1_4/GPIO_14, 10 SCB1_5/GPIO_15, 11 SUSPEND, 12 WAKEUP, 13 GPIO_16, 14 USBDP, 15 USBDM, 16 VCCD, 17 VSSD, 18 ~{{XRES}}, 19 VBUS, 20 VSSD, 21 GPIO_17, 22 GPIO_18, 23 VDDD, 24 VSSA, 25 GPIO_0, 26 GPIO_1, 27 SCB0_1/GPIO_2, 28 SCB0_2/GPIO_3, 29 SCB0_3/GPIO_4, 30 SCB0_4/GPIO_5, 31 GPIO_6, 32 GPIO_7, 33 1EP

## CYPD3171-24LQXQ
designator *  value CYPD3171-24LQXQ  Reference: U
USB Type-C port controller, Cortex®-M0 processor, UFP CC bootloader, QFN-24; ki_keywords: USBPD Quickcharge; ki_fp_filters: QFN*1EP*4x4mm*P0.5mm*EP2.75x2.75mm*; Footprint: Package_DFN_QFN:QFN-24-1EP_4x4mm_P0.5mm_EP2.75x2.75mm; Datasheet: https://www.infineon.com/dgdl/Infineon-EZ-PD(TM)_CCG3PA_Datasheet_USB_Type-C_Port_Controller-DataSheet-v09_00-EN.pdf?fileId=8ac78c8c7d0d8da4017d0ee438366ac0; Description_: USB Type-C port controller, Cortex®-M0 processor, UFP CC bootloader, QFN-24
pins: 1 P1.0, 2 P1.1, 3 VBUS_P_CTRL, 4 VBUS_C_CTRL, 5 DP1/P1.2, 6 DM1/P1.3, 7 P0.0/SWD_DAT_0, 8 P0.1/SWD_CLK_0, 9 P2.0/AXRES, 10 P2.1, 11 VBUS_C_MON_DIS, 12 P2.2, 13 P2.3, 14 CC2, 15 CC1, 16 DM0/P3.1, 17 DP0/P3.0, 18 VBUS_IN_DIS, 19 CSP, 20 FB, 21 COMP, 22 GND, 23 VDDD, 24 VCCD, 25 GND

## CYPD3174-16SXQ
designator *  value CYPD3174-16SXQ  Reference: U
USB Type-C port controller, Cortex®-M0 processor, DFP CC with opto coupler feedback bootloader, SOIC-16; ki_keywords: USBPD quickcharge; ki_fp_filters: SOIC*3.9x9.9mm*P1.27mm*; Footprint: Package_SO:SOIC-16_3.9x9.9mm_P1.27mm; Datasheet: https://www.infineon.com/dgdl/Infineon-EZ-PD(TM)_CCG3PA_Datasheet_USB_Type-C_Port_Controller-DataSheet-v09_00-EN.pdf?fileId=8ac78c8c7d0d8da4017d0ee438366ac0; Description_: USB Type-C port controller, Cortex®-M0 processor, DFP CC with opto coupler feedback bootloader, SOIC-16
pins: 1 FB, 2 COMP, 3 VDDD, 4 VCCD, 5 VBUS_P_CTRL, 6 P0.0/SWD_DAT_0, 7 P0.1/SWD_CLK_0, 8 P2.0/AXRES, 9 VBUS_C_MON_DIS, 10 CC2, 11 CC1, 12 DM0/P3.1, 13 DP0/P3.0, 14 VBUS_IN_DIS, 15 GND, 16 CSP

## CYPD3174-24LQXQ
designator *  value CYPD3174-24LQXQ  Reference: U
USB Type-C port controller, Cortex®-M0 processor, DFP CC with opto coupler feedback bootloader, QFN-24; ki_keywords: USBPD Quickcharge; ki_fp_filters: QFN*1EP*4x4mm*P0.5mm*EP2.75x2.75mm*; Footprint: Package_DFN_QFN:QFN-24-1EP_4x4mm_P0.5mm_EP2.75x2.75mm; Datasheet: https://www.infineon.com/dgdl/Infineon-EZ-PD(TM)_CCG3PA_Datasheet_USB_Type-C_Port_Controller-DataSheet-v09_00-EN.pdf?fileId=8ac78c8c7d0d8da4017d0ee438366ac0; Description_: USB Type-C port controller, Cortex®-M0 processor, DFP CC with opto coupler feedback bootloader, QFN-24
pins: 1 P1.0, 2 P1.1, 3 VBUS_P_CTRL, 4 VBUS_C_CTRL, 5 DP1/P1.2, 6 DM1/P1.3, 7 P0.0/SWD_DAT_0, 8 P0.1/SWD_CLK_0, 9 P2.0/AXRES, 10 P2.1, 11 VBUS_C_MON_DIS, 12 P2.2, 13 P2.3, 14 CC2, 15 CC1, 16 DM0/P3.1, 17 DP0/P3.0, 18 VBUS_IN_DIS, 19 CSP, 20 FB, 21 COMP, 22 GND, 23 VDDD, 24 VCCD, 25 GND

## CYPD3175-24LQXQ
designator *  value CYPD3175-24LQXQ  Reference: U
USB Type-C port controller, Cortex®-M0 processor, DFP CC with direct feedback bootloader, QFN-24; ki_keywords: USBPD Quickcharge; ki_fp_filters: QFN*1EP*4x4mm*P0.5mm*EP2.75x2.75mm*; Footprint: Package_DFN_QFN:QFN-24-1EP_4x4mm_P0.5mm_EP2.75x2.75mm; Datasheet: https://www.infineon.com/dgdl/Infineon-EZ-PD(TM)_CCG3PA_Datasheet_USB_Type-C_Port_Controller-DataSheet-v09_00-EN.pdf?fileId=8ac78c8c7d0d8da4017d0ee438366ac0; Description_: USB Type-C port controller, Cortex®-M0 processor, DFP CC with direct feedback bootloader, QFN-24
pins: 1 P1.0, 2 P1.1, 3 VBUS_P_CTRL, 4 VBUS_C_CTRL, 5 DP1/P1.2, 6 DM1/P1.3, 7 P0.0/SWD_DAT_0, 8 P0.1/SWD_CLK_0, 9 P2.0/AXRES, 10 P2.1, 11 VBUS_C_MON_DIS, 12 P2.2, 13 P2.3, 14 CC2, 15 CC1, 16 DM0/P3.1, 17 DP0/P3.0, 18 VBUS_IN_DIS, 19 CSP, 20 FB, 21 COMP, 22 GND, 23 VDDD, 24 VCCD, 25 GND

## CYPD3177-24LQ
designator *  value CYPD3177-24LQ  Reference: U
Stand-alone USB PD controller (with sink Auto-run mode), QFN-24; ki_keywords: usb pd type csink; ki_fp_filters: QFN*1EP?4x4mm*P0.5mm*; Footprint: Package_DFN_QFN:QFN-24-1EP_4x4mm_P0.5mm_EP2.75x2.75mm; Datasheet: https://www.infineon.com/dgdl/Infineon-EZ-PD_BCR_Datasheet_USB_Type-C_Port_Controller_for_Power_Sinks-DataSheet-v03_00-EN.pdf?fileId=8ac78c8c7d0d8da4017d0ee7ce9d70ad; Description_: Stand-alone USB PD controller (with sink Auto-run mode), QFN-24
pins: 1 VBUS_MIN, 2 VBUS_MAX, 3 VBUS_FET_EN, 4 SAFE_PWR_EN, 5 ISNK_COARSE, 6 ISNK_FINE, 7 ~{{HPI_INT}}, 8 GPIO_1, 9 FAULT, 10 FLIP, 11 VDC_OUT, 12 HPI_SDA, 13 HPI_SCL, 14 CC2, 15 CC1, 16 NC, 17 NC, 18 VBUS_IN, 19 GND, 20 NC, 21 NC, 22 GND, 23 VDDD, 24 VCCD, 25 GND

## FE1.1s
designator *  value FE1.1s  Reference: U
USB 2.0 High Speed 4-Port Hub Controller, SSOP-28; ki_keywords: 4-Port, EEPROM, High Speed, Hub, USB2.0; ki_fp_filters: SSOP*3.9x9.9mm*P0.635mm*; Footprint: Package_SO:SSOP-28_3.9x9.9mm_P0.635mm; Datasheet: https://cdn-shop.adafruit.com/product-files/2991/FE1.1s+Data+Sheet+(Rev.+1.0).pdf; Description_: USB 2.0 High Speed 4-Port Hub Controller, SSOP-28
pins: 1 VSS, 2 XOUT, 3 XIN, 4 DM4, 5 DP4, 6 DM3, 7 DP3, 8 DM2, 9 DP2, 10 DM1, 11 DP1, 12 VD18_O, 13 VD33, 14 REXT, 15 DMU, 16 DPU, 17 ~{{XRSTJ}}, 18 VBUSM, 19 BUSJ, 20 VDD5, 21 VD33_O, 22 DRV, 23 LED1/EESCL, 24 LED2, 25 PWRJ, 26 OVCJ, 27 TESTJ/EESDA, 28 VD18

## FSUSB30MUX
designator *  value FSUSB30MUX  Reference: U
Low-Power, Two-Port, High-Speed, USB2.0 (480Mbps) Switch, MSOP-10; ki_keywords: USB 2.0 High Speed Switch; ki_fp_filters: MSOP*3x3mm*P0.5mm*; Footprint: Package_SO:MSOP-10_3x3mm_P0.5mm; Datasheet: https://www.onsemi.com/pdf/datasheet/fsusb30-d.pdf; Description_: Low-Power, Two-Port, High-Speed, USB2.0 (480Mbps) Switch, MSOP-10
pins: 1 S, 2 HSD1+, 3 HSD2+, 4 D+, 5 GND, 6 D-, 7 HSD2-, 8 HSD1-, 9 ~{{OE}}, 10 VCC

## FSUSB42MUX
designator *  value FSUSB42MUX  Reference: U
Low-Power, Two-Port, High-Speed, USB2.0 (480Mbps) or UART Switch, MSOP-10; ki_keywords: USB 2.0 UART High Speed Switch; ki_fp_filters: MSOP*3x3mm*P0.5mm*; Footprint: Package_SO:MSOP-10_3x3mm_P0.5mm; Datasheet: https://www.onsemi.com/pub/Collateral/FSUSB42-D.PDF; Description_: Low-Power, Two-Port, High-Speed, USB2.0 (480Mbps) or UART Switch, MSOP-10
pins: 1 VCC, 2 SEL, 3 D+, 4 D-, 5 GND, 6 HSD1-, 7 HSD1+, 8 HSD2-, 9 HSD2+, 10 ~{{OE}}

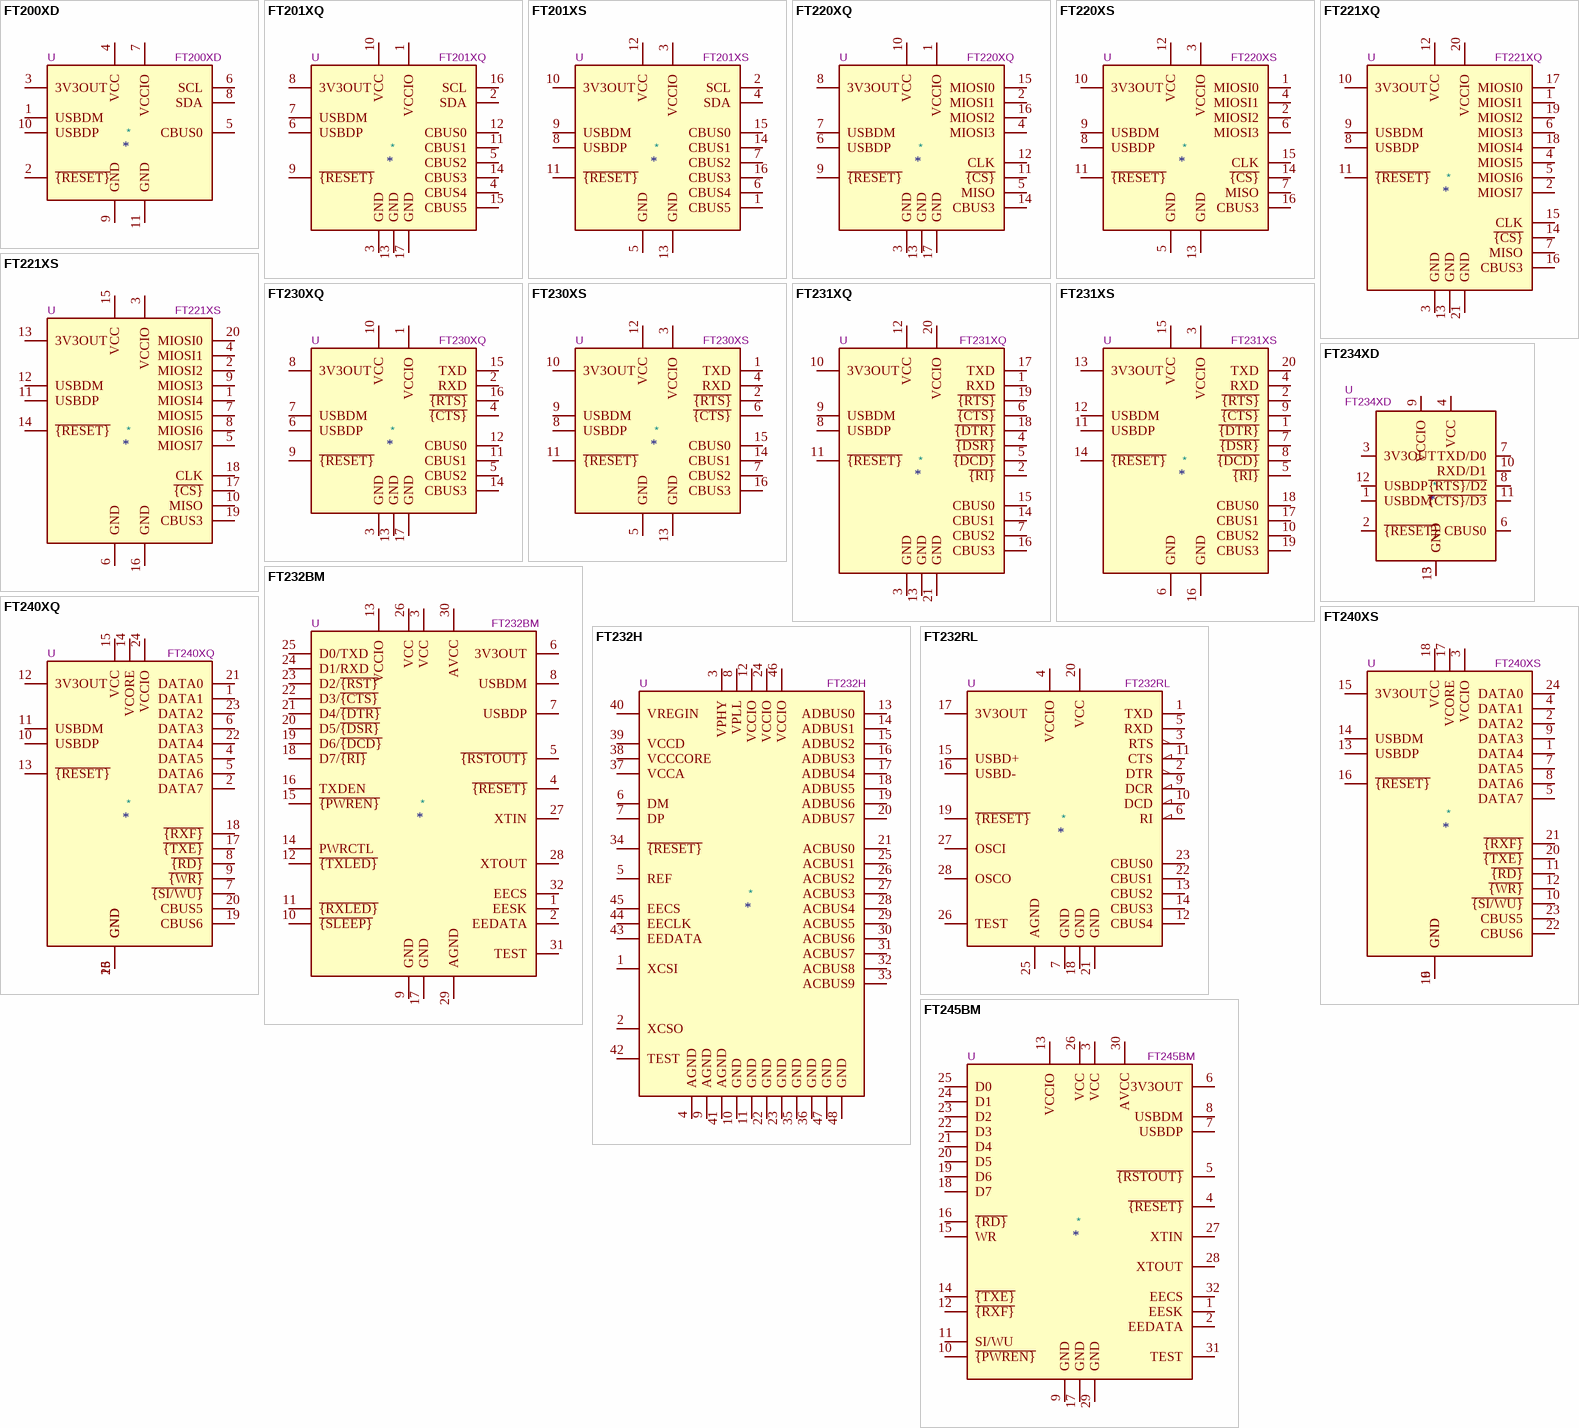
[diagram p2: symbols FT200XD to FT245BM]

## FT200XD
designator *  value FT200XD  Reference: U
Full Speed USB to I2C Bridge, DFN-10; ki_keywords: FTDI USB I2C Interface Converter; ki_fp_filters: DFN*3x3mm*P0.5mm*; Footprint: Package_DFN_QFN:DFN-10-1EP_3x3mm_P0.5mm_EP1.55x2.48mm; Datasheet: https://www.ftdichip.com/Support/Documents/DataSheets/ICs/DS_FT200XD.pdf; Description_: Full Speed USB to I2C Bridge, DFN-10
pins: 1 USBDM, 2 ~{{RESET}}, 3 3V3OUT, 4 VCC, 5 CBUS0, 6 SCL, 7 VCCIO, 8 SDA, 9 GND, 10 USBDP, 11 GND

## FT201XQ
designator *  value FT201XQ  Reference: U
Full Speed USB to I2C Bridge, QFN-10; ki_keywords: FTDI USB I2C interface Converter; ki_fp_filters: QFN*1EP*4x4mm*P0.65mm*; Footprint: Package_DFN_QFN:QFN-16-1EP_4x4mm_P0.65mm_EP2.1x2.1mm; Datasheet: https://www.ftdichip.com/Support/Documents/DataSheets/ICs/DS_FT201X.pdf; Description_: Full Speed USB to I2C Bridge, QFN-10
pins: 1 VCCIO, 2 SDA, 3 GND, 4 CBUS4, 5 CBUS2, 6 USBDP, 7 USBDM, 8 3V3OUT, 9 ~{{RESET}}, 10 VCC, 11 CBUS1, 12 CBUS0, 13 GND, 14 CBUS3, 15 CBUS5, 16 SCL, 17 GND

## FT201XS
designator *  value FT201XS  Reference: U
Full Speed USB to I2C Bridge, SSOP-16; ki_keywords: FTDI USB I2C Interface Converter; ki_fp_filters: SSOP*3.9x4.9mm*P0.635mm*; Footprint: Package_SO:SSOP-16_3.9x4.9mm_P0.635mm; Datasheet: https://www.ftdichip.com/Support/Documents/DataSheets/ICs/DS_FT201X.pdf; Description_: Full Speed USB to I2C Bridge, SSOP-16
pins: 1 CBUS5, 2 SCL, 3 VCCIO, 4 SDA, 5 GND, 6 CBUS4, 7 CBUS2, 8 USBDP, 9 USBDM, 10 3V3OUT, 11 ~{{RESET}}, 12 VCC, 13 GND, 14 CBUS1, 15 CBUS0, 16 CBUS3

## FT220XQ
designator *  value FT220XQ  Reference: U
Full Speed USB to 4-Bit SPI / FT1248 Bridge, QFN-16; ki_keywords: FTDI USB SPI FT1248 Interface Converter; ki_fp_filters: QFN*1EP*4x4mm*P0.65mm*; Footprint: Package_DFN_QFN:QFN-16-1EP_4x4mm_P0.65mm_EP2.1x2.1mm; Datasheet: https://www.ftdichip.com/Support/Documents/DataSheets/ICs/DS_FT220X.pdf; Description_: Full Speed USB to 4-Bit SPI / FT1248 Bridge, QFN-16
pins: 1 VCCIO, 2 MIOSI1, 3 GND, 4 MIOSI3, 5 MISO, 6 USBDP, 7 USBDM, 8 3V3OUT, 9 ~{{RESET}}, 10 VCC, 11 ~{{CS}}, 12 CLK, 13 GND, 14 CBUS3, 15 MIOSI0, 16 MIOSI2, 17 GND

## FT220XS
designator *  value FT220XS  Reference: U
Full Speed USB to 4-Bit SPI / FT1248 Bridge, SSOP-16; ki_keywords: FTDI USB SPI FT1248 Interface Converter; ki_fp_filters: SSOP*3.9x4.9mm*P0.635mm*; Footprint: Package_SO:SSOP-16_3.9x4.9mm_P0.635mm; Datasheet: https://www.ftdichip.com/Support/Documents/DataSheets/ICs/DS_FT220X.pdf; Description_: Full Speed USB to 4-Bit SPI / FT1248 Bridge, SSOP-16
pins: 1 MIOSI0, 2 MIOSI2, 3 VCCIO, 4 MIOSI1, 5 GND, 6 MIOSI3, 7 MISO, 8 USBDP, 9 USBDM, 10 3V3OUT, 11 ~{{RESET}}, 12 VCC, 13 GND, 14 ~{{CS}}, 15 CLK, 16 CBUS3

## FT221XQ
designator *  value FT221XQ  Reference: U
Full Speed USB to 8-Bit SPI / FT1248 Bridge, QFN-20; ki_keywords: FTDI USB SPI FT1248 interface converter; ki_fp_filters: QFN*4x4mm*P0.5mm*; Footprint: Package_DFN_QFN:QFN-20-1EP_4x4mm_P0.5mm_EP2.5x2.5mm; Datasheet: https://www.ftdichip.com/Support/Documents/DataSheets/ICs/DS_FT221X.pdf; Description_: Full Speed USB to 8-Bit SPI / FT1248 Bridge, QFN-20
pins: 1 MIOSI1, 2 MIOSI7, 3 GND, 4 MIOSI5, 5 MIOSI6, 6 MIOSI3, 7 MISO, 8 USBDP, 9 USBDM, 10 3V3OUT, 11 ~{{RESET}}, 12 VCC, 13 GND, 14 ~{{CS}}, 15 CLK, 16 CBUS3, 17 MIOSI0, 18 MIOSI4, 19 MIOSI2, 20 VCCIO, 21 GND

## FT221XS
designator *  value FT221XS  Reference: U
Full Speed USB to 8-Bit SPI / FT1248 Bridge, SSOP-20; ki_keywords: FTDI USB SPI FT1248 interface converter; ki_fp_filters: SSOP*3.9x8.7mm*P0.635mm*; Footprint: Package_SO:SSOP-20_3.9x8.7mm_P0.635mm; Datasheet: https://www.ftdichip.com/Support/Documents/DataSheets/ICs/DS_FT221X.pdf; Description_: Full Speed USB to 8-Bit SPI / FT1248 Bridge, SSOP-20
pins: 1 MIOSI4, 2 MIOSI2, 3 VCCIO, 4 MIOSI1, 5 MIOSI7, 6 GND, 7 MIOSI5, 8 MIOSI6, 9 MIOSI3, 10 MISO, 11 USBDP, 12 USBDM, 13 3V3OUT, 14 ~{{RESET}}, 15 VCC, 16 GND, 17 ~{{CS}}, 18 CLK, 19 CBUS3, 20 MIOSI0

## FT230XQ
designator *  value FT230XQ  Reference: U
Full Speed USB to Basic UART, QFN-16; ki_keywords: FTDI USB UART interface converter; ki_fp_filters: QFN*1EP*4x4mm*P0.65mm*; Footprint: Package_DFN_QFN:QFN-16-1EP_4x4mm_P0.65mm_EP2.1x2.1mm; Datasheet: https://ftdichip.com/wp-content/uploads/2024/05/DS_FT230X.pdf; Description_: Full Speed USB to Basic UART, QFN-16
pins: 1 VCCIO, 2 RXD, 3 GND, 4 ~{{CTS}}, 5 CBUS2, 6 USBDP, 7 USBDM, 8 3V3OUT, 9 ~{{RESET}}, 10 VCC, 11 CBUS1, 12 CBUS0, 13 GND, 14 CBUS3, 15 TXD, 16 ~{{RTS}}, 17 GND

## FT230XS
designator *  value FT230XS  Reference: U
Full Speed USB to Basic UART, SSOP-16; ki_keywords: FTDI USB UART interface converter; ki_fp_filters: SSOP*3.9x4.9*P0.635mm*; Footprint: Package_SO:SSOP-16_3.9x4.9mm_P0.635mm; Datasheet: https://www.ftdichip.com/Support/Documents/DataSheets/ICs/DS_FT230X.pdf; Description_: Full Speed USB to Basic UART, SSOP-16
pins: 1 TXD, 2 ~{{RTS}}, 3 VCCIO, 4 RXD, 5 GND, 6 ~{{CTS}}, 7 CBUS2, 8 USBDP, 9 USBDM, 10 3V3OUT, 11 ~{{RESET}}, 12 VCC, 13 GND, 14 CBUS1, 15 CBUS0, 16 CBUS3

## FT231XQ
designator *  value FT231XQ  Reference: U
Full Speed USB to Full Handshake UART, QFN-20; ki_keywords: FTDI USB UART interface converter; ki_fp_filters: QFN*4x4mm*P0.5mm*; Footprint: Package_DFN_QFN:QFN-20-1EP_4x4mm_P0.5mm_EP2.5x2.5mm; Datasheet: https://www.ftdichip.com/Support/Documents/DataSheets/ICs/DS_FT231X.pdf; Description_: Full Speed USB to Full Handshake UART, QFN-20
pins: 1 RXD, 2 ~{{RI}}, 3 GND, 4 ~{{DSR}}, 5 ~{{DCD}}, 6 ~{{CTS}}, 7 CBUS2, 8 USBDP, 9 USBDM, 10 3V3OUT, 11 ~{{RESET}}, 12 VCC, 13 GND, 14 CBUS1, 15 CBUS0, 16 CBUS3, 17 TXD, 18 ~{{DTR}}, 19 ~{{RTS}}, 20 VCCIO, 21 GND

## FT231XS
designator *  value FT231XS  Reference: U
Full Speed USB to Full Handshake UART, SSOP-20; ki_keywords: FTDI USB UART interface converter; ki_fp_filters: *SSOP*3.9x8.7mm*P0.635mm*; Footprint: Package_SO:SSOP-20_3.9x8.7mm_P0.635mm; Datasheet: https://www.ftdichip.com/Support/Documents/DataSheets/ICs/DS_FT231X.pdf; Description_: Full Speed USB to Full Handshake UART, SSOP-20
pins: 1 ~{{DTR}}, 2 ~{{RTS}}, 3 VCCIO, 4 RXD, 5 ~{{RI}}, 6 GND, 7 ~{{DSR}}, 8 ~{{DCD}}, 9 ~{{CTS}}, 10 CBUS2, 11 USBDP, 12 USBDM, 13 3V3OUT, 14 ~{{RESET}}, 15 VCC, 16 GND, 17 CBUS1, 18 CBUS0, 19 CBUS3, 20 TXD

## FT232BM
designator *  value FT232BM  Reference: U
Hi Speed Single Channel USB UART/FIFO, LQFP-32; ki_keywords: FTDI USB Single UART FIFO; ki_fp_filters: LQFP*7x7mm*P0.8mm*; Footprint: Package_QFP:LQFP-32_7x7mm_P0.8mm; Datasheet: https://www.ftdichip.com/Support/Documents/DataSheets/ICs/DS_FT232BM.pdf; Description_: Hi Speed Single Channel USB UART/FIFO, LQFP-32
pins: 1 EESK, 2 EEDATA, 3 VCC, 4 ~{{RESET}}, 5 ~{{RSTOUT}}, 6 3V3OUT, 7 USBDP, 8 USBDM, 9 GND, 10 ~{{SLEEP}}, 11 ~{{RXLED}}, 12 ~{{TXLED}}, 13 VCCIO, 14 PWRCTL, 15 ~{{PWREN}}, 16 TXDEN, 17 GND, 18 D7/~{{RI}}, 19 D6/~{{DCD}}, 20 D5/~{{DSR}}, 21 D4/~{{DTR}}, 22 D3/~{{CTS}}, 23 D2/~{{RST}}, 24 D1/RXD, 25 D0/TXD, 26 VCC, 27 XTIN, 28 XTOUT, 29 AGND, 30 AVCC, 31 TEST, 32 EECS

## FT232H
designator *  value FT232H  Reference: U
Hi Speed Single Channel USB UART/FIFO, LQFP/QFN-48; ki_keywords: FTDI USB Single UART FIFO; ki_fp_filters: QFN*1EP*8x8mm*P0.5mm* LQFP*7x7mm*P0.5mm*; Datasheet: https://www.ftdichip.com/Support/Documents/DataSheets/ICs/DS_FT232H.pdf; Description_: Hi Speed Single Channel USB UART/FIFO, LQFP/QFN-48
pins: 1 XCSI, 2 XCSO, 3 VPHY, 4 AGND, 5 REF, 6 DM, 7 DP, 8 VPLL, 9 AGND, 10 GND, 11 GND, 12 VCCIO, 13 ADBUS0, 14 ADBUS1, 15 ADBUS2, 16 ADBUS3, 17 ADBUS4, 18 ADBUS5, 19 ADBUS6, 20 ADBUS7, 21 ACBUS0, 22 GND, 23 GND, 24 VCCIO, 25 ACBUS1, 26 ACBUS2, 27 ACBUS3, 28 ACBUS4, 29 ACBUS5, 30 ACBUS6, 31 ACBUS7, 32 ACBUS8, 33 ACBUS9, 34 ~{{RESET}}, 35 GND, 36 GND, 37 VCCA, 38 VCCCORE, 39 VCCD, 40 VREGIN, 41 AGND, 42 TEST, 43 EEDATA, 44 EECLK, 45 EECS, 46 VCCIO, 47 GND, 48 GND

## FT232RL
designator *  value FT232RL  Reference: U
USB to Serial Interface, SSOP-28; ki_keywords: FTDI USB Serial; ki_fp_filters: SSOP*5.3x10.2mm*P0.65mm*; Footprint: Package_SO:SSOP-28_5.3x10.2mm_P0.65mm; Datasheet: https://www.ftdichip.com/Support/Documents/DataSheets/ICs/DS_FT232R.pdf; Description_: USB to Serial Interface, SSOP-28
pins: 1 TXD, 2 DTR, 3 RTS, 4 VCCIO, 5 RXD, 6 RI, 7 GND, 9 DCR, 10 DCD, 11 CTS, 12 CBUS4, 13 CBUS2, 14 CBUS3, 15 USBD+, 16 USBD-, 17 3V3OUT, 18 GND, 19 ~{{RESET}}, 20 VCC, 21 GND, 22 CBUS1, 23 CBUS0, 25 AGND, 26 TEST, 27 OSCI, 28 OSCO

## FT234XD
designator *  value FT234XD  Reference: U
Full Speed USB to Basic UART, WDFN-12; ki_keywords: FTDI Serial; ki_fp_filters: WDFN*1EP*3x3mm*P0.45mm*; Footprint: Package_DFN_QFN:WDFN-12-1EP_3x3mm_P0.45mm_EP1.7x2.5mm; Datasheet: https://ftdichip.com/wp-content/uploads/2024/05/DS_FT234XD.pdf; Description_: Full Speed USB to Basic UART, WDFN-12
pins: 1 USBDM, 2 ~{{RESET}}, 3 3V3OUT, 4 VCC, 5 GND, 6 CBUS0, 7 TXD/D0, 8 ~{{RTS}/D2}, 9 VCCIO, 10 RXD/D1, 11 ~{{CTS}/D3}, 12 USBDP, 13 GND

## FT240XQ
designator *  value FT240XQ  Reference: U
Full Speed USB to 8-Bit FIFO, QFN-24; ki_keywords: FTDI USB FIFO interface converter; ki_fp_filters: QFN*4x4mm*P0.5mm*; Footprint: Package_DFN_QFN:QFN-24-1EP_4x4mm_P0.5mm_EP2.6x2.6mm; Datasheet: https://www.ftdichip.com/Support/Documents/DataSheets/ICs/DS_FT240X.pdf; Description_: Full Speed USB to 8-Bit FIFO, QFN-24
pins: 1 DATA1, 2 DATA7, 3 GND, 4 DATA5, 5 DATA6, 6 DATA3, 7 ~{{SI/WU}}, 8 ~{{RD}}, 9 ~{{WR}}, 10 USBDP, 11 USBDM, 12 3V3OUT, 13 ~{{RESET}}, 14 VCORE, 15 VCC, 16 GND, 17 ~{{TXE}}, 18 ~{{RXF}}, 19 CBUS6, 20 CBUS5, 21 DATA0, 22 DATA4, 23 DATA2, 24 VCCIO, 25 GND

## FT240XS
designator *  value FT240XS  Reference: U
Full Speed USB to 8-Bit FIFO, SSOP-24; ki_keywords: FTDI USB FIFO interface converter; ki_fp_filters: SSOP*3.9x8.7mm*P0.635mm*; Footprint: Package_SO:SSOP-24_3.9x8.7mm_P0.635mm; Datasheet: https://www.ftdichip.com/Support/Documents/DataSheets/ICs/DS_FT240X.pdf; Description_: Full Speed USB to 8-Bit FIFO, SSOP-24
pins: 1 DATA4, 2 DATA2, 3 VCCIO, 4 DATA1, 5 DATA7, 6 GND, 7 DATA5, 8 DATA6, 9 DATA3, 10 ~{{SI/WU}}, 11 ~{{RD}}, 12 ~{{WR}}, 13 USBDP, 14 USBDM, 15 3V3OUT, 16 ~{{RESET}}, 17 VCORE, 18 VCC, 19 GND, 20 ~{{TXE}}, 21 ~{{RXF}}, 22 CBUS6, 23 CBUS5, 24 DATA0

## FT245BM
designator *  value FT245BM  Reference: U
Full Speed USB to 8-Bit FIFO, LQFP-32; ki_keywords: FTDI USB FIFO Interface Converter; ki_fp_filters: LQFP*7x7mm*P0.8mm*; Footprint: Package_QFP:LQFP-32_7x7mm_P0.8mm; Datasheet: https://www.ftdichip.com/Support/Documents/DataSheets/ICs/DS_FT245BM.pdf; Description_: Full Speed USB to 8-Bit FIFO, LQFP-32
pins: 1 EESK, 2 EEDATA, 3 VCC, 4 ~{{RESET}}, 5 ~{{RSTOUT}}, 6 3V3OUT, 7 USBDP, 8 USBDM, 9 GND, 10 ~{{PWREN}}, 11 SI/WU, 12 ~{{RXF}}, 13 VCCIO, 14 ~{{TXE}}, 15 WR, 16 ~{{RD}}, 17 GND, 18 D7, 19 D6, 20 D5, 21 D4, 22 D3, 23 D2, 24 D1, 25 D0, 26 VCC, 27 XTIN, 28 XTOUT, 29 GND, 30 AVCC, 31 TEST, 32 EECS

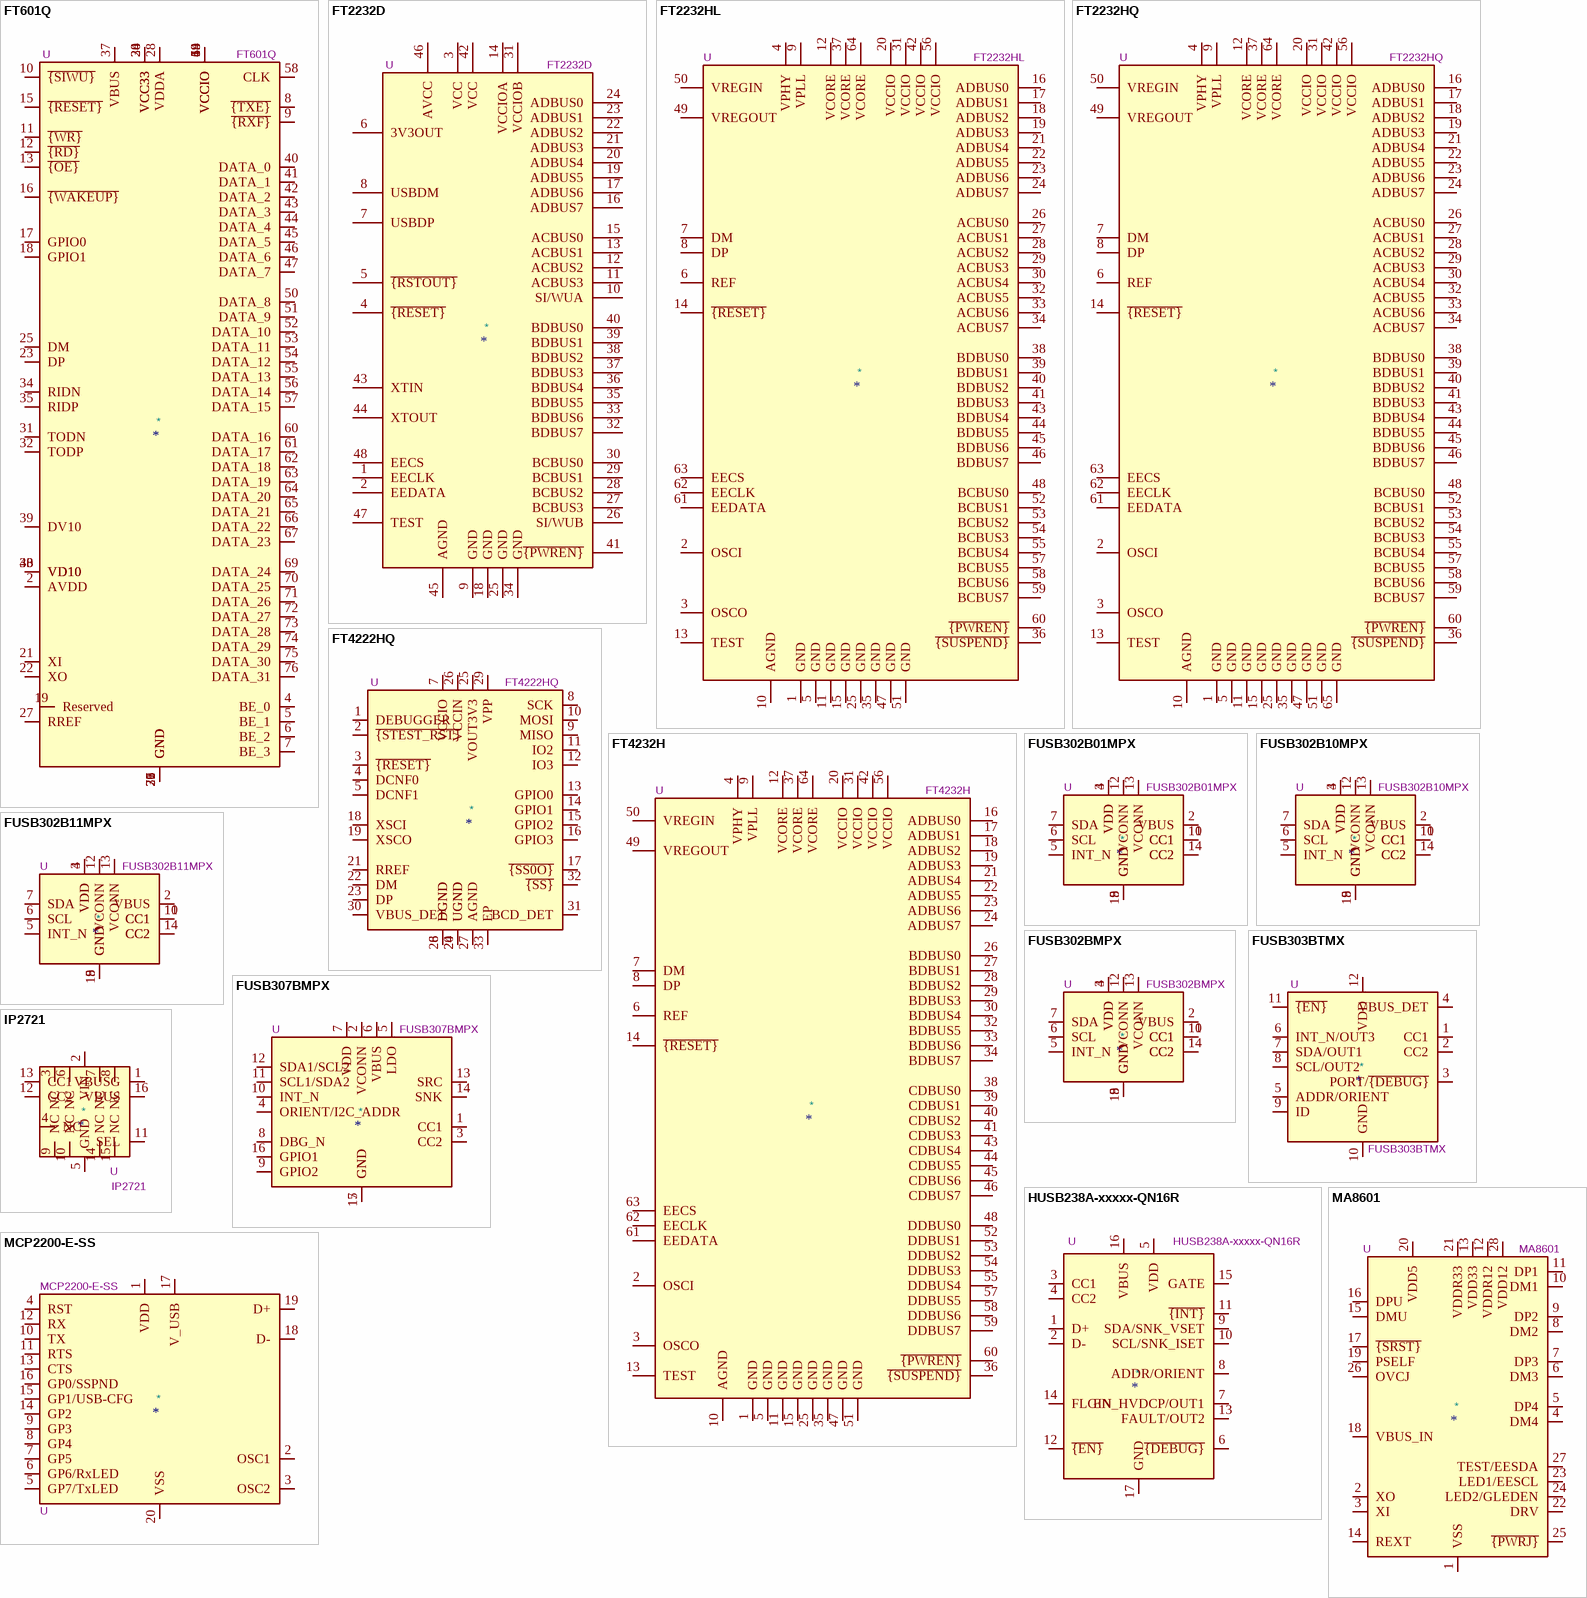
[diagram p3: symbols FT601Q to MCP2200-E-SS]

## FT601Q
designator *  value FT601Q  Reference: U
USB 3.0 Super-Speed to 32 bits Sync FIFO, QFN-76; ki_keywords: FTDI USB 3.0 FIFO; ki_fp_filters: *QFN*1EP*9x9mm*P0.4mm*; Footprint: Package_DFN_QFN:QFN-76-1EP_9x9mm_P0.4mm_EP5.81x6.31mm; Datasheet: https://ftdichip.com/wp-content/uploads/2020/07/DS_FT600Q-FT601Q-IC-Datasheet.pdf; Description_: USB 3.0 Super-Speed to 32 bits Sync FIFO, QFN-76
pins: 1 GND, 2 AVDD, 3 VD10, 4 BE_0, 5 BE_1, 6 BE_2, 7 BE_3, 8 ~{{TXE}}, 9 ~{{RXF}}, 10 ~{{SIWU}}, 11 ~{{WR}}, 12 ~{{RD}}, 13 ~{{OE}}, 14 VCCIO, 15 ~{{RESET}}, 16 ~{{WAKEUP}}, 17 GPIO0, 18 GPIO1, 19 Reserved, 20 VCC33, 21 XI, 22 XO, 23 DP, 24 VCC33, 25 DM, 26 GND, 27 RREF, 28 VDDA, 29 GND, 30 VD10, 31 TODN, 32 TODP, 33 VD10, 34 RIDN, 35 RIDP, 36 GND, 37 VBUS, 38 VCC33, 39 DV10, 40 DATA_0, 41 DATA_1, 42 DATA_2, 43 DATA_3, 44 DATA_4, 45 DATA_5, 46 DATA_6, 47 DATA_7, 48 VD10, 49 VCCIO, 50 DATA_8, 51 DATA_9, 52 DATA_10, 53 DATA_11, 54 DATA_12, 55 DATA_13, 56 DATA_14, 57 DATA_15, 58 CLK, 59 VCCIO, 60 DATA_16, 61 DATA_17, 62 DATA_18, 63 DATA_19, 64 DATA_20, 65 DATA_21, 66 DATA_22, 67 DATA_23, 68 VCCIO, 69 DATA_24, 70 DATA_25, 71 DATA_26, 72 DATA_27, 73 DATA_28, 74 DATA_29, 75 DATA_30, 76 DATA_31, 77 GND

## FT2232D
designator *  value FT2232D  Reference: U
Full Speed Double Channel USB UART/FIFO, LQFP-48; ki_keywords: USB Double UART FIFO; ki_fp_filters: LQFP*7x7mm*P0.5mm*; Footprint: Package_QFP:LQFP-48_7x7mm_P0.5mm; Datasheet: http://www.ftdichip.com/Support/Documents/DataSheets/ICs/DS_FT2232D.pdf; Description_: Full Speed Double Channel USB UART/FIFO, LQFP-48
pins: 1 EECLK, 2 EEDATA, 3 VCC, 4 ~{{RESET}}, 5 ~{{RSTOUT}}, 6 3V3OUT, 7 USBDP, 8 USBDM, 9 GND, 10 SI/WUA, 11 ACBUS3, 12 ACBUS2, 13 ACBUS1, 14 VCCIOA, 15 ACBUS0, 16 ADBUS7, 17 ADBUS6, 18 GND, 19 ADBUS5, 20 ADBUS4, 21 ADBUS3, 22 ADBUS2, 23 ADBUS1, 24 ADBUS0, 25 GND, 26 SI/WUB, 27 BCBUS3, 28 BCBUS2, 29 BCBUS1, 30 BCBUS0, 31 VCCIOB, 32 BDBUS7, 33 BDBUS6, 34 GND, 35 BDBUS5, 36 BDBUS4, 37 BDBUS3, 38 BDBUS2, 39 BDBUS1, 40 BDBUS0, 41 ~{{PWREN}}, 42 VCC, 43 XTIN, 44 XTOUT, 45 AGND, 46 AVCC, 47 TEST, 48 EECS

## FT2232HL
designator *  value FT2232HL  Reference: U
Hi Speed Double Channel USB UART/FIFO, LQFP-64; ki_keywords: USB Double UART FIFO; ki_fp_filters: LQFP*10x10mm*P0.5mm*; Footprint: Package_QFP:LQFP-64_10x10mm_P0.5mm; Datasheet: https://www.ftdichip.com/Support/Documents/DataSheets/ICs/DS_FT2232H.pdf; Description_: Hi Speed Double Channel USB UART/FIFO, LQFP-64
pins: 1 GND, 2 OSCI, 3 OSCO, 4 VPHY, 5 GND, 6 REF, 7 DM, 8 DP, 9 VPLL, 10 AGND, 11 GND, 12 VCORE, 13 TEST, 14 ~{{RESET}}, 15 GND, 16 ADBUS0, 17 ADBUS1, 18 ADBUS2, 19 ADBUS3, 20 VCCIO, 21 ADBUS4, 22 ADBUS5, 23 ADBUS6, 24 ADBUS7, 25 GND, 26 ACBUS0, 27 ACBUS1, 28 ACBUS2, 29 ACBUS3, 30 ACBUS4, 31 VCCIO, 32 ACBUS5, 33 ACBUS6, 34 ACBUS7, 35 GND, 36 ~{{SUSPEND}}, 37 VCORE, 38 BDBUS0, 39 BDBUS1, 40 BDBUS2, 41 BDBUS3, 42 VCCIO, 43 BDBUS4, 44 BDBUS5, 45 BDBUS6, 46 BDBUS7, 47 GND, 48 BCBUS0, 49 VREGOUT, 50 VREGIN, 51 GND, 52 BCBUS1, 53 BCBUS2, 54 BCBUS3, 55 BCBUS4, 56 VCCIO, 57 BCBUS5, 58 BCBUS6, 59 BCBUS7, 60 ~{{PWREN}}, 61 EEDATA, 62 EECLK, 63 EECS, 64 VCORE

## FT2232HQ
designator *  value FT2232HQ  Reference: U
Hi Speed Double Channel USB UART/FIFO, QFN-64; ki_keywords: USB Double UART FIFO; ki_fp_filters: QFN*1EP*9x9mm*P0.5mm*; Footprint: Package_DFN_QFN:QFN-64-1EP_9x9mm_P0.5mm_EP4.35x4.35mm; Datasheet: https://www.ftdichip.com/Support/Documents/DataSheets/ICs/DS_FT2232H.pdf; Description_: Hi Speed Double Channel USB UART/FIFO, QFN-64
pins: 1 GND, 2 OSCI, 3 OSCO, 4 VPHY, 5 GND, 6 REF, 7 DM, 8 DP, 9 VPLL, 10 AGND, 11 GND, 12 VCORE, 13 TEST, 14 ~{{RESET}}, 15 GND, 16 ADBUS0, 17 ADBUS1, 18 ADBUS2, 19 ADBUS3, 20 VCCIO, 21 ADBUS4, 22 ADBUS5, 23 ADBUS6, 24 ADBUS7, 25 GND, 26 ACBUS0, 27 ACBUS1, 28 ACBUS2, 29 ACBUS3, 30 ACBUS4, 31 VCCIO, 32 ACBUS5, 33 ACBUS6, 34 ACBUS7, 35 GND, 36 ~{{SUSPEND}}, 37 VCORE, 38 BDBUS0, 39 BDBUS1, 40 BDBUS2, 41 BDBUS3, 42 VCCIO, 43 BDBUS4, 44 BDBUS5, 45 BDBUS6, 46 BDBUS7, 47 GND, 48 BCBUS0, 49 VREGOUT, 50 VREGIN, 51 GND, 52 BCBUS1, 53 BCBUS2, 54 BCBUS3, 55 BCBUS4, 56 VCCIO, 57 BCBUS5, 58 BCBUS6, 59 BCBUS7, 60 ~{{PWREN}}, 61 EEDATA, 62 EECLK, 63 EECS, 64 VCORE, 65 GND

## FT4222HQ
designator *  value FT4222HQ  Reference: U
USB 2.0 to Quad SPI or I2C Bridge, VQFN-32; ki_keywords: USB SPI I2C FTDI Bridge Converter Interface; ki_fp_filters: VQFN*5x5mm*P0.5mm*; Footprint: Package_DFN_QFN:VQFN-32-1EP_5x5mm_P0.5mm_EP3.1x3.1mm; Datasheet: https://www.ftdichip.com/Support/Documents/DataSheets/ICs/DS_FT4222H.pdf; Description_: USB 2.0 to Quad SPI or I2C Bridge, VQFN-32
pins: 1 DEBUGGER, 2 ~{{STEST_RST}}, 3 ~{{RESET}}, 4 DCNF0, 5 DCNF1, 6 DGND, 7 VCCIO, 8 SCK, 9 MISO, 10 MOSI, 11 IO2, 12 IO3, 13 GPIO0, 14 GPIO1, 15 GPIO2, 16 GPIO3, 17 ~{{SS0O}}, 18 XSCI, 19 XSCO, 20 UGND, 21 RREF, 22 DM, 23 DP, 24 UGND, 25 VOUT3V3, 26 VCCIN, 27 AGND, 28 DGND, 29 VPP, 30 VBUS_DET, 31 BCD_DET, 32 ~{{SS}}, 33 EP

## FT4232H
designator *  value FT4232H  Reference: U
Hi Speed Quad Channel USB UART/FIFO, LQFP/QFN-64; ki_keywords: FTDI USB Quad UART FIFO; ki_fp_filters: QFN*1EP*9x9mm*P0.5mm* LQFP*10x10mm*P0.5mm*; Datasheet: https://www.ftdichip.com/Support/Documents/DataSheets/ICs/DS_FT4232H.pdf; Description_: Hi Speed Quad Channel USB UART/FIFO, LQFP/QFN-64
pins: 1 GND, 2 OSCI, 3 OSCO, 4 VPHY, 5 GND, 6 REF, 7 DM, 8 DP, 9 VPLL, 10 AGND, 11 GND, 12 VCORE, 13 TEST, 14 ~{{RESET}}, 15 GND, 16 ADBUS0, 17 ADBUS1, 18 ADBUS2, 19 ADBUS3, 20 VCCIO, 21 ADBUS4, 22 ADBUS5, 23 ADBUS6, 24 ADBUS7, 25 GND, 26 BDBUS0, 27 BDBUS1, 28 BDBUS2, 29 BDBUS3, 30 BDBUS4, 31 VCCIO, 32 BDBUS5, 33 BDBUS6, 34 BDBUS7, 35 GND, 36 ~{{SUSPEND}}, 37 VCORE, 38 CDBUS0, 39 CDBUS1, 40 CDBUS2, 41 CDBUS3, 42 VCCIO, 43 CDBUS4, 44 CDBUS5, 45 CDBUS6, 46 CDBUS7, 47 GND, 48 DDBUS0, 49 VREGOUT, 50 VREGIN, 51 GND, 52 DDBUS1, 53 DDBUS2, 54 DDBUS3, 55 DDBUS4, 56 VCCIO, 57 DDBUS5, 58 DDBUS6, 59 DDBUS7, 60 ~{{PWREN}}, 61 EEDATA, 62 EECLK, 63 EECS, 64 VCORE

## FUSB302B01MPX
designator *  value FUSB302B01MPX  Reference: U
Programmable USB Type-C Controller w/PD, I2C address 0x23, WQFN-14; ki_keywords: USB USB-C PD Power Delivery PHY; ki_fp_filters: WQFN*1EP*2.5x2.5mm*P0.5mm*; Footprint: Package_DFN_QFN:WQFN-14-1EP_2.5x2.5mm_P0.5mm_EP1.45x1.45mm; Datasheet: http://www.onsemi.com/pub/Collateral/FUSB302B-D.PDF; Description_: Programmable USB Type-C Controller w/PD, I2C address 0x23, WQFN-14
pins: 1 CC2, 2 VBUS, 3 VDD, 4 VDD, 5 INT_N, 6 SCL, 7 SDA, 8 GND, 9 GND, 10 CC1, 11 CC1, 12 VCONN, 13 VCONN, 14 CC2, 15 GND

## FUSB302B10MPX
designator *  value FUSB302B10MPX  Reference: U
Programmable USB Type-C Controller w/PD, I2C address 0x24, WQFN-14; ki_keywords: USB USB-C PD Power Delivery PHY; ki_fp_filters: WQFN*1EP*2.5x2.5mm*P0.5mm*; Footprint: Package_DFN_QFN:WQFN-14-1EP_2.5x2.5mm_P0.5mm_EP1.45x1.45mm; Datasheet: http://www.onsemi.com/pub/Collateral/FUSB302B-D.PDF; Description_: Programmable USB Type-C Controller w/PD, I2C address 0x24, WQFN-14
pins: 1 CC2, 2 VBUS, 3 VDD, 4 VDD, 5 INT_N, 6 SCL, 7 SDA, 8 GND, 9 GND, 10 CC1, 11 CC1, 12 VCONN, 13 VCONN, 14 CC2, 15 GND

## FUSB302B11MPX
designator *  value FUSB302B11MPX  Reference: U
Programmable USB Type-C Controller w/PD, I2C address 0x25, WQFN-14; ki_keywords: USB USB-C PD Power Delivery PHY; ki_fp_filters: WQFN*1EP*2.5x2.5mm*P0.5mm*; Footprint: Package_DFN_QFN:WQFN-14-1EP_2.5x2.5mm_P0.5mm_EP1.45x1.45mm; Datasheet: http://www.onsemi.com/pub/Collateral/FUSB302B-D.PDF; Description_: Programmable USB Type-C Controller w/PD, I2C address 0x25, WQFN-14
pins: 1 CC2, 2 VBUS, 3 VDD, 4 VDD, 5 INT_N, 6 SCL, 7 SDA, 8 GND, 9 GND, 10 CC1, 11 CC1, 12 VCONN, 13 VCONN, 14 CC2, 15 GND

## FUSB302BMPX
designator *  value FUSB302BMPX  Reference: U
Programmable USB Type-C Controller w/PD, I2C address 0x22, WQFN-14; ki_keywords: USB USB-C PD Power Delivery PHY; ki_fp_filters: WQFN*1EP*2.5x2.5mm*P0.5mm*; Footprint: Package_DFN_QFN:WQFN-14-1EP_2.5x2.5mm_P0.5mm_EP1.45x1.45mm; Datasheet: http://www.onsemi.com/pub/Collateral/FUSB302B-D.PDF; Description_: Programmable USB Type-C Controller w/PD, I2C address 0x22, WQFN-14
pins: 1 CC2, 2 VBUS, 3 VDD, 4 VDD, 5 INT_N, 6 SCL, 7 SDA, 8 GND, 9 GND, 10 CC1, 11 CC1, 12 VCONN, 13 VCONN, 14 CC2, 15 GND

## FUSB303BTMX
designator *  value FUSB303BTMX  Reference: U
USB Type-C port controller with I2C and GPIO control, X2QFN-12; ki_keywords: usb type-c controller i2c gpio source sink drp; ki_fp_filters: *X2QFN*1.6x1.6mm*P0.4mm*; Footprint: Package_DFN_QFN:Texas_X2QFN-12_1.6x1.6mm_P0.4mm; Datasheet: https://www.onsemi.com/pdf/datasheet/fusb303b-d.pdf; Description_: USB Type-C port controller with I2C and GPIO control, X2QFN-12
pins: 1 CC1, 2 CC2, 3 PORT/~{{DEBUG}}, 4 VBUS_DET, 5 ADDR/ORIENT, 6 INT_N/OUT3, 7 SDA/OUT1, 8 SCL/OUT2, 9 ID, 10 GND, 11 ~{{EN}}, 12 VDD

## FUSB307BMPX
designator *  value FUSB307BMPX  Reference: U
USB Type-C Port Controller with USB-PD, WQFN-16; ki_keywords: USB USB-C PD Power Delivery PHY TCPC; ki_fp_filters: WQFN*1EP*3x3mm*P0.5mm*; Footprint: Package_DFN_QFN:WQFN-16-1EP_3x3mm_P0.5mm_EP1.75x1.75mm; Datasheet: http://www.onsemi.com/pub/Collateral/FUSB307B-D.PDF; Description_: USB Type-C Port Controller with USB-PD, WQFN-16
pins: 1 CC1, 2 VCONN, 3 CC2, 4 ORIENT/I2C_ADDR, 5 LDO, 6 VBUS, 7 VDD, 8 DBG_N, 9 GPIO2, 10 INT_N, 11 SCL1/SDA2, 12 SDA1/SCL2, 13 SRC, 14 SNK, 15 GND, 16 GPIO1, 17 GND

## HUSB238A-xxxxx-QN16R
designator *  value HUSB238A-xxxxx-QN16R  Reference: U
USB-PD Sink IC Port Controller, VBUS = 3..48V, USB Type-C rev. 2.1, USB-PD rev. 3.1, BC1.2, QC2.0, WQFN-16; ki_keywords: USB-C I2C USB-Power-Delivery Extended-Power-Range Quick-Charge; ki_fp_filters: *WQFN*3x3mm*P0.5mm*EP1.7*x1.7*mm*; Footprint: Package_DFN_QFN:WQFN-16-1EP_3x3mm_P0.5mm_EP1.75x1.75mm; Datasheet: https://www.lcsc.com/datasheet/lcsc_datasheet_2412301710_Hynetek-HUSB238A-BB001-QN16R_C24833806.pdf; Description_: USB-PD Sink IC Port Controller, VBUS = 3..48V, USB Type-C rev. 2.1, USB-PD rev. 3.1, BC1.2, QC2.0, WQFN-16
pins: 1 D+, 2 D-, 3 CC1, 4 CC2, 5 VDD, 6 ~{{DEBUG}}, 7 EN_HVDCP/OUT1, 8 ADDR/ORIENT, 9 SDA/SNK_VSET, 10 SCL/SNK_ISET, 11 ~{{INT}}, 12 ~{{EN}}, 13 FAULT/OUT2, 14 FLGIN, 15 GATE, 16 VBUS, 17 GND